# Altium integrated library Altera Cyclone III.IntLib: 225 symbols (part 5 of 50)
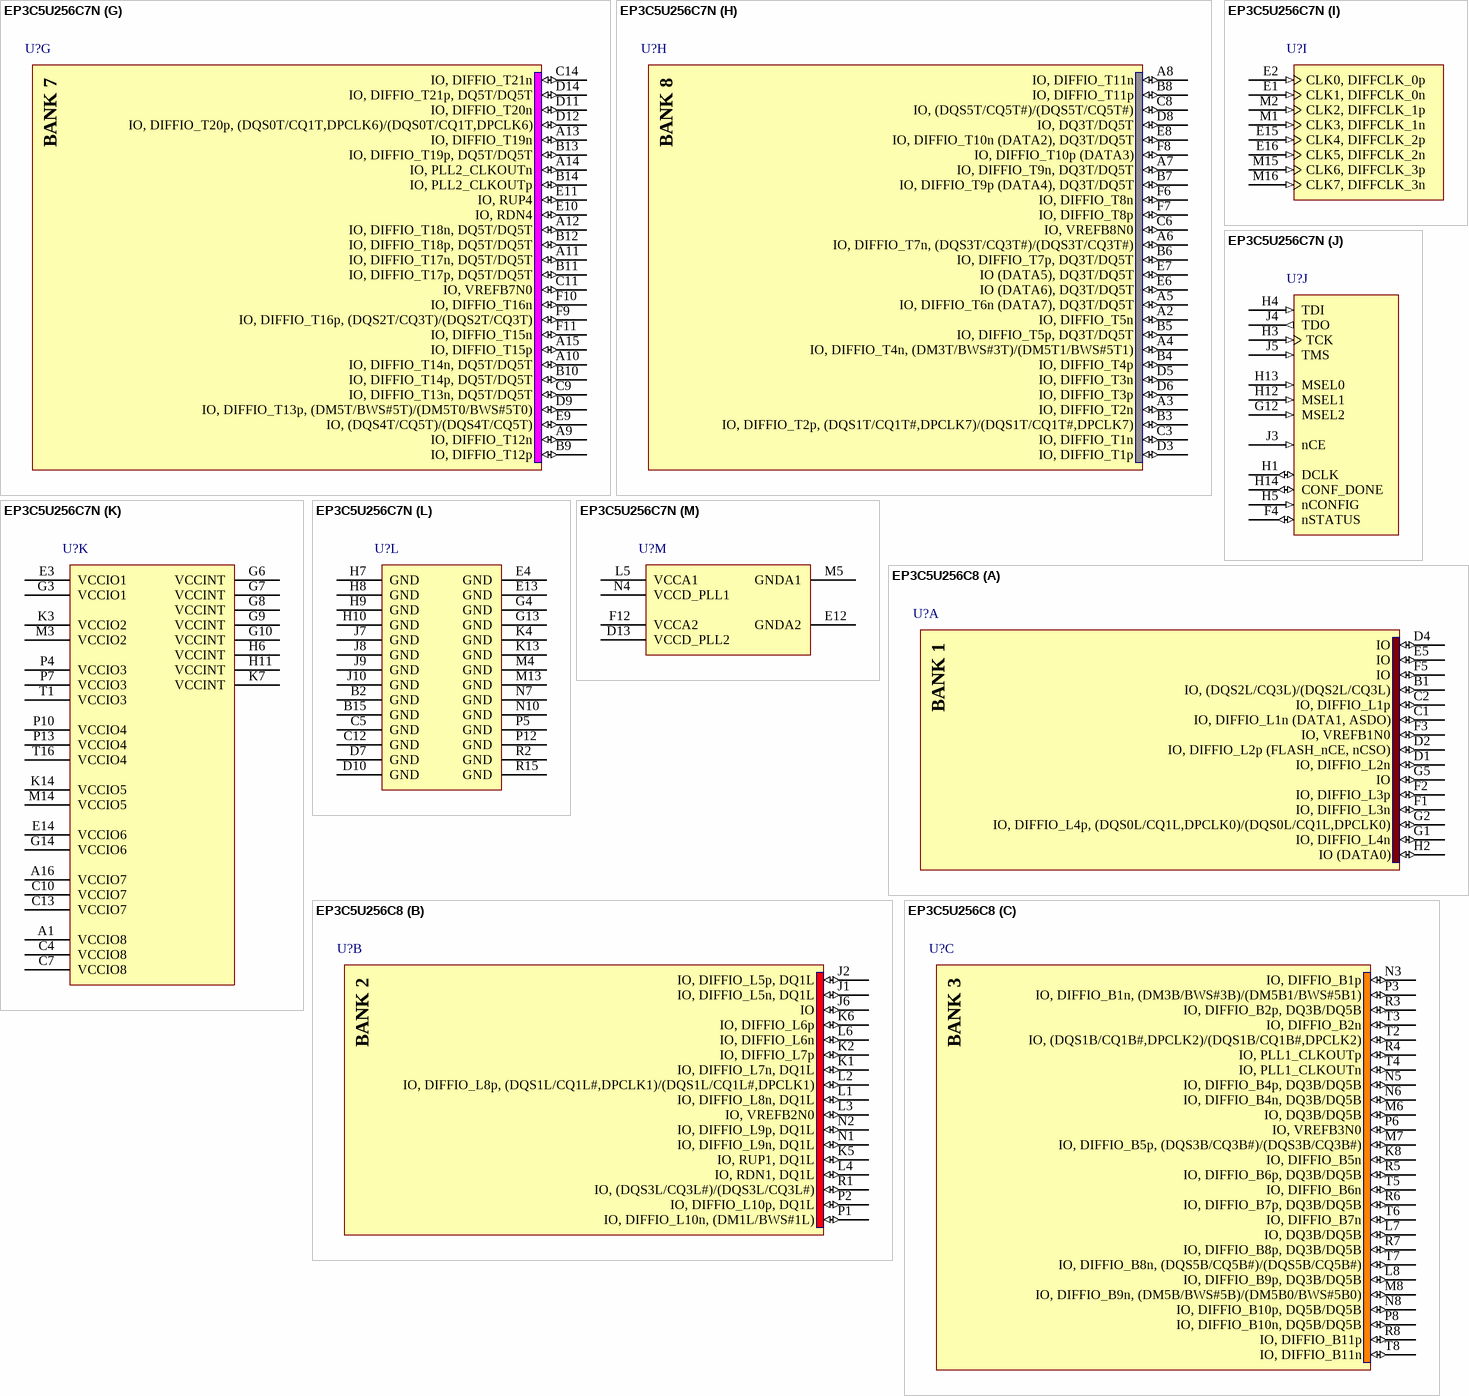
[diagram p402: symbols EP3C5U256C7N to EP3C5U256C8]

## EP3C5U256C7N
designator U?
Cyclone III Family FPGA, 182 I/O Pins, 4 PLLs, 256-Pin UFBGA, Speed Grade 7, Commercial Grade, Pb-Free; Published: 14-Mar-2008; DatasheetVersion: ver2.0, May-2008; PackageVersion: ver15.1, May-2008; PackageReference: UBGA256; Publisher: Altium Limited; PackageDescription: 256-Ball Ultra FineLine Ball Grid Array (UBGA) - Wire Bond; Supplier 1: Digi-Key; Supplier Part Number 1: 544-2441-ND; Code_JEDEC: MO-216-BAJ-2; ComponentLink1Description: Manufacturer Link; ComponentLink1URL: http://www.altera.com/; ComponentLink2Description: Handbook (7.86MB); ComponentLink2URL: http://www.altera.com/literature/hb/cyc3/cyclone3_handbook.pdf; ComponentLink3Description: Packaging Specification; ComponentLink3URL: http://www.altera.com/literature/ds/dspkg.pdf
footprint UBGA256 (BGA, 484-Leads, Body 19x19mm, Pitch 0.8mm)
3D model EP3C5-UBGA256 (256-Ball Ultra FineLine Ball Grid Array (UBGA) - Wire Bond)
signal-integrity model EP3C5_U256 (Cyclone III)
part A pins: B1 IO, (DQS2L/CQ3L)/(DQS2L/CQ3L) (io), C1 IO, DIFFIO_L1n (DATA1, ASDO) (io), C2 IO, DIFFIO_L1p (io), D1 IO, DIFFIO_L2n (io), D2 IO, DIFFIO_L2p (FLASH_nCE, nCSO) (io), D4 IO (io), E5 IO (io), F1 IO, DIFFIO_L3n (io), F2 IO, DIFFIO_L3p (io), F3 IO, VREFB1N0 (io), F5 IO (io), G1 IO, DIFFIO_L4n (io), G2 IO, DIFFIO_L4p, (DQS0L/CQ1L,DPCLK0)/(DQS0L/CQ1L,DPCLK0) (io), G5 IO (io), H2 IO (DATA0) (io)
part B pins: J1 IO, DIFFIO_L5n, DQ1L (io), J2 IO, DIFFIO_L5p, DQ1L (io), J6 IO (io), K1 IO, DIFFIO_L7n, DQ1L (io), K2 IO, DIFFIO_L7p (io), K5 IO, RUP1, DQ1L (io), K6 IO, DIFFIO_L6p (io), L1 IO, DIFFIO_L8n, DQ1L (io), L2 IO, DIFFIO_L8p, (DQS1L/CQ1L#,DPCLK1)/(DQS1L/CQ1L#,DPCLK1) (io), L3 IO, VREFB2N0 (io), L4 IO, RDN1, DQ1L (io), L6 IO, DIFFIO_L6n (io), N1 IO, DIFFIO_L9n, DQ1L (io), N2 IO, DIFFIO_L9p, DQ1L (io), P1 IO, DIFFIO_L10n, (DM1L/BWS#1L) (io), P2 IO, DIFFIO_L10p, DQ1L (io), R1 IO, (DQS3L/CQ3L#)/(DQS3L/CQ3L#) (io)
part C pins: K8 IO, DIFFIO_B5n (io), L7 IO, DQ3B/DQ5B (io), L8 IO, DIFFIO_B9p, DQ3B/DQ5B (io), M6 IO, DQ3B/DQ5B (io), M7 IO, DIFFIO_B5p, (DQS3B/CQ3B#)/(DQS3B/CQ3B#) (io), M8 IO, DIFFIO_B9n, (DM5B/BWS#5B)/(DM5B0/BWS#5B0) (io), N3 IO, DIFFIO_B1p (io), N5 IO, DIFFIO_B4p, DQ3B/DQ5B (io), N6 IO, DIFFIO_B4n, DQ3B/DQ5B (io), N8 IO, DIFFIO_B10p, DQ5B/DQ5B (io), P3 IO, DIFFIO_B1n, (DM3B/BWS#3B)/(DM5B1/BWS#5B1) (io), P6 IO, VREFB3N0 (io), P8 IO, DIFFIO_B10n, DQ5B/DQ5B (io), R3 IO, DIFFIO_B2p, DQ3B/DQ5B (io), R4 IO, PLL1_CLKOUTp (io), R5 IO, DIFFIO_B6p, DQ3B/DQ5B (io), R6 IO, DIFFIO_B7p, DQ3B/DQ5B (io), R7 IO, DIFFIO_B8p, DQ3B/DQ5B (io), R8 IO, DIFFIO_B11p (io), T2 IO, (DQS1B/CQ1B#,DPCLK2)/(DQS1B/CQ1B#,DPCLK2) (io), T3 IO, DIFFIO_B2n (io), T4 IO, PLL1_CLKOUTn (io), T5 IO, DIFFIO_B6n (io), T6 IO, DIFFIO_B7n (io), T7 IO, DIFFIO_B8n, (DQS5B/CQ5B#)/(DQS5B/CQ5B#) (io), T8 IO, DIFFIO_B11n (io)
part D pins: K9 IO, DIFFIO_B13p (io), K10 IO, DIFFIO_B18p (io), L9 IO, DIFFIO_B13n (io), L10 IO, DIFFIO_B18n (io), L11 IO, DIFFIO_B21n (io), M9 IO, DIFFIO_B14p (io), M10 IO, RUP2 (io), M11 IO, DIFFIO_B22p (io), N9 IO, DIFFIO_B14n, DQ5B/DQ5B (io), N11 IO, RDN2 (io), N12 IO, DIFFIO_B22n (io), P9 IO, (DQS2B/CQ3B)/(DQS2B/CQ3B) (io), P11 IO, VREFB4N0 (io), P14 IO, DIFFIO_B21p (io), R9 IO, DIFFIO_B12p (io), R10 IO, DIFFIO_B15p, DQ5B/DQ5B (io), R11 IO, DIFFIO_B16p, DQ5B/DQ5B (io), R12 IO, DIFFIO_B17p, DQ5B/DQ5B (io), R13 IO, DIFFIO_B19p (io), R14 IO (io), T9 IO, DIFFIO_B12n (io), T10 IO, DIFFIO_B15n, (DQS4B/CQ5B)/(DQS4B/CQ5B) (io), T11 IO, DIFFIO_B16n (io), T12 IO, DIFFIO_B17n, DQ5B/DQ5B (io), T13 IO, DIFFIO_B19n, DQ5B/DQ5B (io), T14 IO, DIFFIO_B20p, DQ5B/DQ5B (io), T15 IO, DIFFIO_B20n, (DQS0B/CQ1B,DPCLK3)/(DQS0B/CQ1B,DPCLK3) (io)
part E pins: J11 IO (io), J12 IO, DIFFIO_R6p (io), J13 IO, DQ1R (io), J14 IO, DIFFIO_R6n, DQ1R (io), J15 IO, DIFFIO_R7p (DEV_CLRn) (io), J16 IO, DIFFIO_R7n (DEV_OE) (io), K11 IO (io), K12 IO (io), K15 IO, DIFFIO_R8p, (DQS1R/CQ1R#,DPCLK4)/(DQS1R/CQ1R#,DPCLK4) (io), K16 IO, DIFFIO_R8n, DQ1R (io), L12 IO (io), L13 IO, DQ1R (io), L14 IO, VREFB5N0 (io), L15 IO, DIFFIO_R9p (io), L16 IO, DIFFIO_R9n, DQ1R (io), M12 IO (io), N13 IO (io), N14 IO, RUP3, (DM1R/BWS#1R) (io), N15 IO, DIFFIO_R10p, DQ1R (io), N16 IO, DIFFIO_R10n, DQ1R (io), P15 IO, RDN3, DQ1R (io), P16 IO, DIFFIO_R11n, (DQS3R/CQ3R#)/(DQS3R/CQ3R#) (io), R16 IO, DIFFIO_R11p, DQ1R (io)
part F pins: B16 IO, (DQS0R/CQ1R,DPCLK5)/(DQS0R/CQ1R,DPCLK5) (io), C15 IO, DIFFIO_R1p (io), C16 IO, DIFFIO_R1n, (DQS2R/CQ3R)/(DQS2R/CQ3R) (io), D15 IO, DIFFIO_R2p (io), D16 IO, DIFFIO_R2n (io), F13 IO (io), F14 IO, VREFB6N0 (io), F15 IO, DIFFIO_R3p (CLKUSR) (io), F16 IO, DIFFIO_R3n (nCEO) (io), G11 IO (io), G15 IO, DIFFIO_R4p (CRC_ERROR) (io), G16 IO, DIFFIO_R4n (INIT_DONE) (io), H15 IO, DIFFIO_R5p (io), H16 IO, DIFFIO_R5n (io)
part G pins: A9 IO, DIFFIO_T12n (io), A10 IO, DIFFIO_T14n, DQ5T/DQ5T (io), A11 IO, DIFFIO_T17n, DQ5T/DQ5T (io), A12 IO, DIFFIO_T18n, DQ5T/DQ5T (io), A13 IO, DIFFIO_T19n (io), A14 IO, PLL2_CLKOUTn (io), A15 IO, DIFFIO_T15p (io), B9 IO, DIFFIO_T12p (io), B10 IO, DIFFIO_T14p, DQ5T/DQ5T (io), B11 IO, DIFFIO_T17p, DQ5T/DQ5T (io), B12 IO, DIFFIO_T18p, DQ5T/DQ5T (io), B13 IO, DIFFIO_T19p, DQ5T/DQ5T (io), B14 IO, PLL2_CLKOUTp (io), C9 IO, DIFFIO_T13n, DQ5T/DQ5T (io), C11 IO, VREFB7N0 (io), C14 IO, DIFFIO_T21n (io), D9 IO, DIFFIO_T13p, (DM5T/BWS#5T)/(DM5T0/BWS#5T0) (io), D11 IO, DIFFIO_T20n (io), D12 IO, DIFFIO_T20p, (DQS0T/CQ1T,DPCLK6)/(DQS0T/CQ1T,DPCLK6) (io), D14 IO, DIFFIO_T21p, DQ5T/DQ5T (io), E9 IO, (DQS4T/CQ5T)/(DQS4T/CQ5T) (io), E10 IO, RDN4 (io), E11 IO, RUP4 (io), F9 IO, DIFFIO_T16p, (DQS2T/CQ3T)/(DQS2T/CQ3T) (io), F10 IO, DIFFIO_T16n (io), F11 IO, DIFFIO_T15n (io)
part H pins: A2 IO, DIFFIO_T5n (io), A3 IO, DIFFIO_T2n (io), A4 IO, DIFFIO_T4n, (DM3T/BWS#3T)/(DM5T1/BWS#5T1) (io), A5 IO, DIFFIO_T6n (DATA7), DQ3T/DQ5T (io), A6 IO, DIFFIO_T7n, (DQS3T/CQ3T#)/(DQS3T/CQ3T#) (io), A7 IO, DIFFIO_T9n, DQ3T/DQ5T (io), A8 IO, DIFFIO_T11n (io), B3 IO, DIFFIO_T2p, (DQS1T/CQ1T#,DPCLK7)/(DQS1T/CQ1T#,DPCLK7) (io), B4 IO, DIFFIO_T4p (io), B5 IO, DIFFIO_T5p, DQ3T/DQ5T (io), B6 IO, DIFFIO_T7p, DQ3T/DQ5T (io), B7 IO, DIFFIO_T9p (DATA4), DQ3T/DQ5T (io), B8 IO, DIFFIO_T11p (io), C3 IO, DIFFIO_T1n (io), C6 IO, VREFB8N0 (io), C8 IO, (DQS5T/CQ5T#)/(DQS5T/CQ5T#) (io), D3 IO, DIFFIO_T1p (io), D5 IO, DIFFIO_T3n (io), D6 IO, DIFFIO_T3p (io), D8 IO, DQ3T/DQ5T (io), E6 IO (DATA6), DQ3T/DQ5T (io), E7 IO (DATA5), DQ3T/DQ5T (io), E8 IO, DIFFIO_T10n (DATA2), DQ3T/DQ5T (io), F6 IO, DIFFIO_T8n (io), F7 IO, DIFFIO_T8p (io), F8 IO, DIFFIO_T10p (DATA3) (io)
part I pins: E1 CLK1, DIFFCLK_0n (in), E2 CLK0, DIFFCLK_0p (in), E15 CLK4, DIFFCLK_2p (in), E16 CLK5, DIFFCLK_2n (in), M1 CLK3, DIFFCLK_1n (in), M2 CLK2, DIFFCLK_1p (in), M15 CLK6, DIFFCLK_3p (in), M16 CLK7, DIFFCLK_3n (in)
part J pins: F4 nSTATUS (io), G12 MSEL2 (in), H1 DCLK (io), H3 TCK (in), H4 TDI (in), H5 nCONFIG (in), H12 MSEL1 (in), H13 MSEL0 (in), H14 CONF_DONE (io), J3 nCE (in), J4 TDO (out), J5 TMS (in)
part K pins: A1 VCCIO8 (power), A16 VCCIO7 (power), C4 VCCIO8 (power), C7 VCCIO8 (power), C10 VCCIO7 (power), C13 VCCIO7 (power), E3 VCCIO1 (power), E14 VCCIO6 (power), G3 VCCIO1 (power), G6 VCCINT (power), G7 VCCINT (power), G8 VCCINT (power), G9 VCCINT (power), G10 VCCINT (power), G14 VCCIO6 (power), H6 VCCINT (power), H11 VCCINT (power), K3 VCCIO2 (power), K7 VCCINT (power), K14 VCCIO5 (power), M3 VCCIO2 (power), M14 VCCIO5 (power), P4 VCCIO3 (power), P7 VCCIO3 (power), P10 VCCIO4 (power), P13 VCCIO4 (power), T1 VCCIO3 (power), T16 VCCIO4 (power)
part L pins: B2 GND (power), B15 GND (power), C5 GND (power), C12 GND (power), D7 GND (power), D10 GND (power), E4 GND (power), E13 GND (power), G4 GND (power), G13 GND (power), H7 GND (power), H8 GND (power), H9 GND (power), H10 GND (power), J7 GND (power), J8 GND (power), J9 GND (power), J10 GND (power), K4 GND (power), K13 GND (power), M4 GND (power), M13 GND (power), N7 GND (power), N10 GND (power), P5 GND (power), P12 GND (power), R2 GND (power), R15 GND (power)
part M pins: D13 VCCD_PLL2 (power), E12 GNDA2 (power), F12 VCCA2 (power), L5 VCCA1 (power), M5 GNDA1 (power), N4 VCCD_PLL1 (power)
part A text: BANK 1
part B text: BANK 2
part C text: BANK 3
part D text: BANK 4
part E text: BANK 5
part F text: BANK 6
part G text: BANK 7
part H text: BANK 8

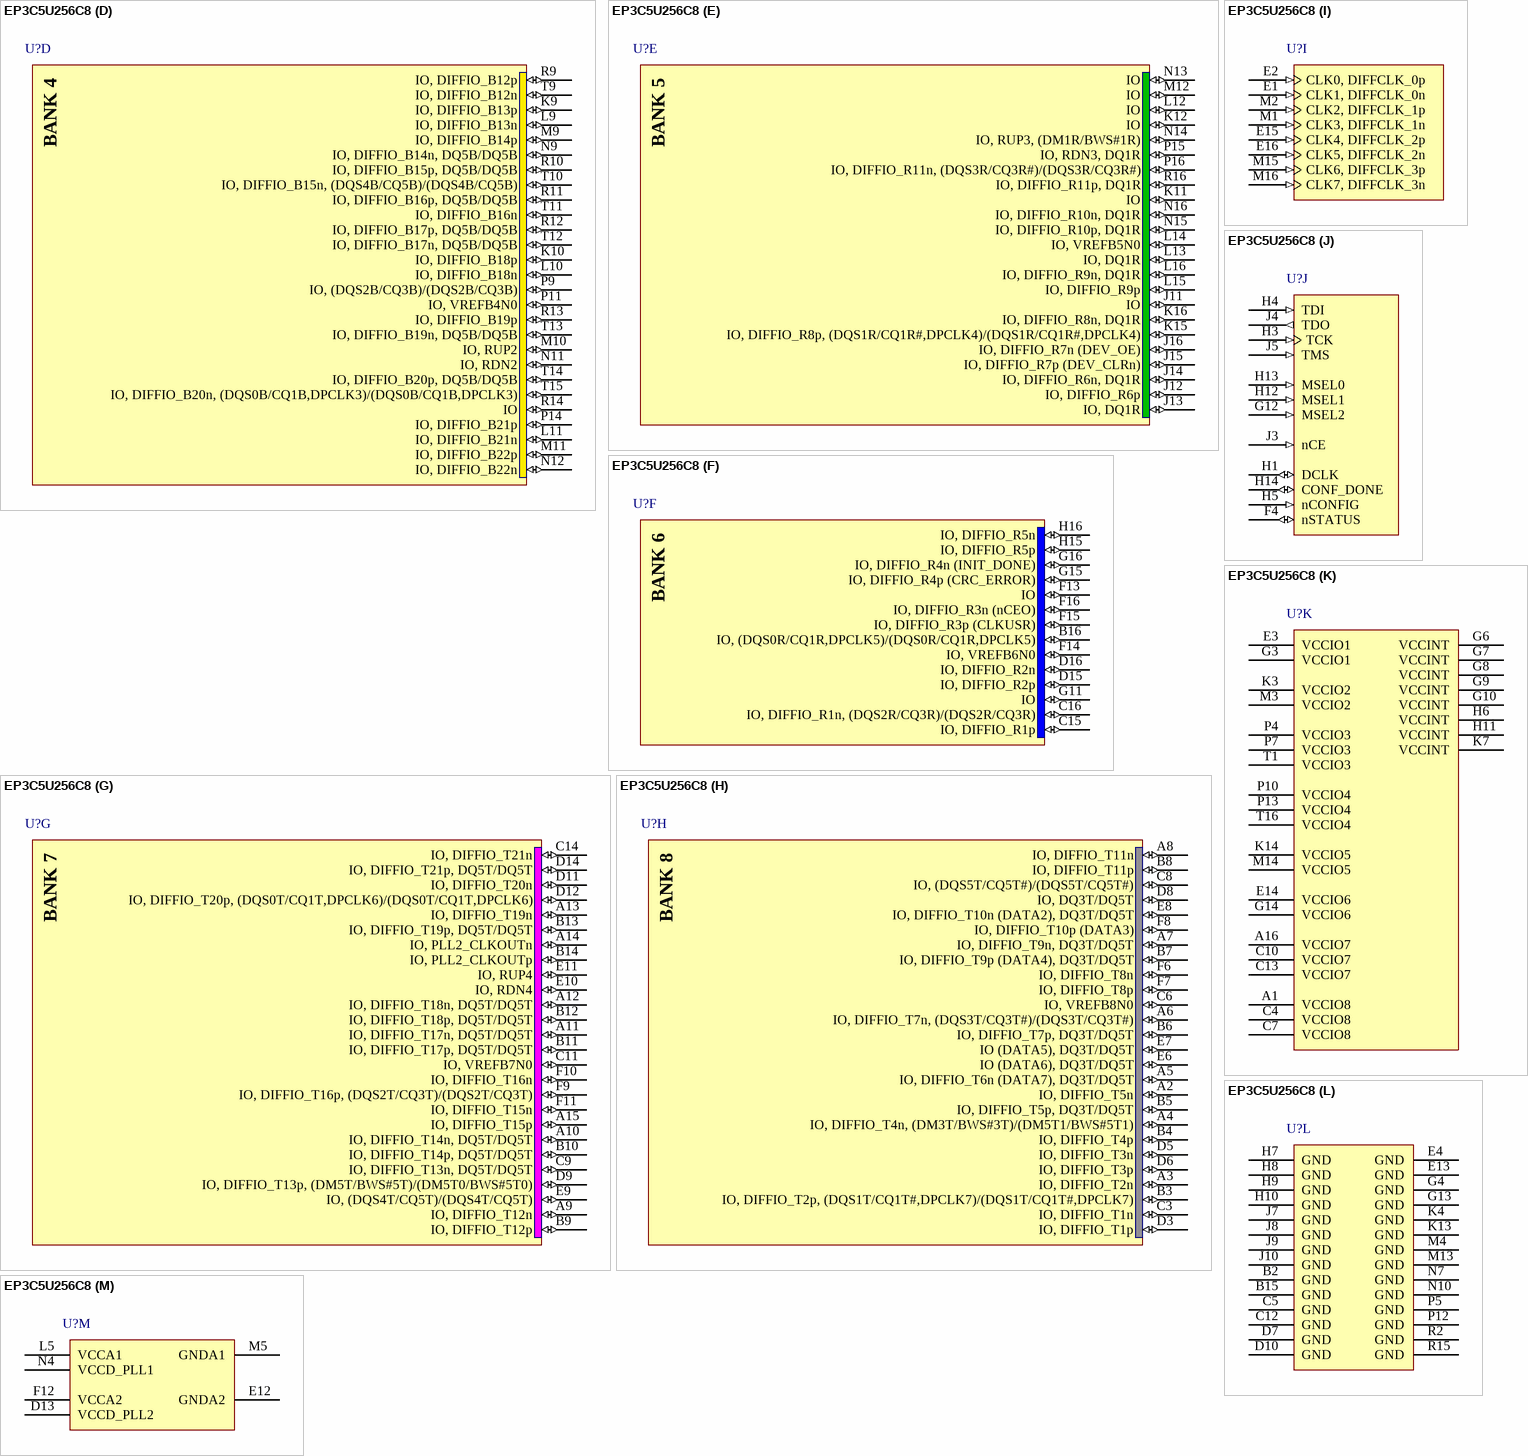
[diagram p27: symbol EP3C5U256C8]

## EP3C5U256C8
designator U?
Cyclone III Family FPGA, 182 I/O Pins, 4 PLLs, 256-Pin UFBGA, Speed Grade 8, Commercial Grade; Published: 14-Mar-2008; DatasheetVersion: ver2.0, May-2008; PackageVersion: ver15.1, May-2008; PackageReference: UBGA256; Publisher: Altium Limited; PackageDescription: 256-Ball Ultra FineLine Ball Grid Array (UBGA) - Wire Bond; Supplier 1: Digi-Key; Supplier Part Number 1: 544-2442-ND; Code_JEDEC: MO-216-BAJ-2; ComponentLink1Description: Manufacturer Link; ComponentLink1URL: http://www.altera.com/; ComponentLink2Description: Handbook (7.86MB); ComponentLink2URL: http://www.altera.com/literature/hb/cyc3/cyclone3_handbook.pdf; ComponentLink3Description: Packaging Specification; ComponentLink3URL: http://www.altera.com/literature/ds/dspkg.pdf
footprint UBGA256 (BGA, 484-Leads, Body 19x19mm, Pitch 0.8mm)
3D model EP3C5-UBGA256 (256-Ball Ultra FineLine Ball Grid Array (UBGA) - Wire Bond)
signal-integrity model EP3C5_U256 (Cyclone III)
part A pins: B1 IO, (DQS2L/CQ3L)/(DQS2L/CQ3L) (io), C1 IO, DIFFIO_L1n (DATA1, ASDO) (io), C2 IO, DIFFIO_L1p (io), D1 IO, DIFFIO_L2n (io), D2 IO, DIFFIO_L2p (FLASH_nCE, nCSO) (io), D4 IO (io), E5 IO (io), F1 IO, DIFFIO_L3n (io), F2 IO, DIFFIO_L3p (io), F3 IO, VREFB1N0 (io), F5 IO (io), G1 IO, DIFFIO_L4n (io), G2 IO, DIFFIO_L4p, (DQS0L/CQ1L,DPCLK0)/(DQS0L/CQ1L,DPCLK0) (io), G5 IO (io), H2 IO (DATA0) (io)
part B pins: J1 IO, DIFFIO_L5n, DQ1L (io), J2 IO, DIFFIO_L5p, DQ1L (io), J6 IO (io), K1 IO, DIFFIO_L7n, DQ1L (io), K2 IO, DIFFIO_L7p (io), K5 IO, RUP1, DQ1L (io), K6 IO, DIFFIO_L6p (io), L1 IO, DIFFIO_L8n, DQ1L (io), L2 IO, DIFFIO_L8p, (DQS1L/CQ1L#,DPCLK1)/(DQS1L/CQ1L#,DPCLK1) (io), L3 IO, VREFB2N0 (io), L4 IO, RDN1, DQ1L (io), L6 IO, DIFFIO_L6n (io), N1 IO, DIFFIO_L9n, DQ1L (io), N2 IO, DIFFIO_L9p, DQ1L (io), P1 IO, DIFFIO_L10n, (DM1L/BWS#1L) (io), P2 IO, DIFFIO_L10p, DQ1L (io), R1 IO, (DQS3L/CQ3L#)/(DQS3L/CQ3L#) (io)
part C pins: K8 IO, DIFFIO_B5n (io), L7 IO, DQ3B/DQ5B (io), L8 IO, DIFFIO_B9p, DQ3B/DQ5B (io), M6 IO, DQ3B/DQ5B (io), M7 IO, DIFFIO_B5p, (DQS3B/CQ3B#)/(DQS3B/CQ3B#) (io), M8 IO, DIFFIO_B9n, (DM5B/BWS#5B)/(DM5B0/BWS#5B0) (io), N3 IO, DIFFIO_B1p (io), N5 IO, DIFFIO_B4p, DQ3B/DQ5B (io), N6 IO, DIFFIO_B4n, DQ3B/DQ5B (io), N8 IO, DIFFIO_B10p, DQ5B/DQ5B (io), P3 IO, DIFFIO_B1n, (DM3B/BWS#3B)/(DM5B1/BWS#5B1) (io), P6 IO, VREFB3N0 (io), P8 IO, DIFFIO_B10n, DQ5B/DQ5B (io), R3 IO, DIFFIO_B2p, DQ3B/DQ5B (io), R4 IO, PLL1_CLKOUTp (io), R5 IO, DIFFIO_B6p, DQ3B/DQ5B (io), R6 IO, DIFFIO_B7p, DQ3B/DQ5B (io), R7 IO, DIFFIO_B8p, DQ3B/DQ5B (io), R8 IO, DIFFIO_B11p (io), T2 IO, (DQS1B/CQ1B#,DPCLK2)/(DQS1B/CQ1B#,DPCLK2) (io), T3 IO, DIFFIO_B2n (io), T4 IO, PLL1_CLKOUTn (io), T5 IO, DIFFIO_B6n (io), T6 IO, DIFFIO_B7n (io), T7 IO, DIFFIO_B8n, (DQS5B/CQ5B#)/(DQS5B/CQ5B#) (io), T8 IO, DIFFIO_B11n (io)
part D pins: K9 IO, DIFFIO_B13p (io), K10 IO, DIFFIO_B18p (io), L9 IO, DIFFIO_B13n (io), L10 IO, DIFFIO_B18n (io), L11 IO, DIFFIO_B21n (io), M9 IO, DIFFIO_B14p (io), M10 IO, RUP2 (io), M11 IO, DIFFIO_B22p (io), N9 IO, DIFFIO_B14n, DQ5B/DQ5B (io), N11 IO, RDN2 (io), N12 IO, DIFFIO_B22n (io), P9 IO, (DQS2B/CQ3B)/(DQS2B/CQ3B) (io), P11 IO, VREFB4N0 (io), P14 IO, DIFFIO_B21p (io), R9 IO, DIFFIO_B12p (io), R10 IO, DIFFIO_B15p, DQ5B/DQ5B (io), R11 IO, DIFFIO_B16p, DQ5B/DQ5B (io), R12 IO, DIFFIO_B17p, DQ5B/DQ5B (io), R13 IO, DIFFIO_B19p (io), R14 IO (io), T9 IO, DIFFIO_B12n (io), T10 IO, DIFFIO_B15n, (DQS4B/CQ5B)/(DQS4B/CQ5B) (io), T11 IO, DIFFIO_B16n (io), T12 IO, DIFFIO_B17n, DQ5B/DQ5B (io), T13 IO, DIFFIO_B19n, DQ5B/DQ5B (io), T14 IO, DIFFIO_B20p, DQ5B/DQ5B (io), T15 IO, DIFFIO_B20n, (DQS0B/CQ1B,DPCLK3)/(DQS0B/CQ1B,DPCLK3) (io)
part E pins: J11 IO (io), J12 IO, DIFFIO_R6p (io), J13 IO, DQ1R (io), J14 IO, DIFFIO_R6n, DQ1R (io), J15 IO, DIFFIO_R7p (DEV_CLRn) (io), J16 IO, DIFFIO_R7n (DEV_OE) (io), K11 IO (io), K12 IO (io), K15 IO, DIFFIO_R8p, (DQS1R/CQ1R#,DPCLK4)/(DQS1R/CQ1R#,DPCLK4) (io), K16 IO, DIFFIO_R8n, DQ1R (io), L12 IO (io), L13 IO, DQ1R (io), L14 IO, VREFB5N0 (io), L15 IO, DIFFIO_R9p (io), L16 IO, DIFFIO_R9n, DQ1R (io), M12 IO (io), N13 IO (io), N14 IO, RUP3, (DM1R/BWS#1R) (io), N15 IO, DIFFIO_R10p, DQ1R (io), N16 IO, DIFFIO_R10n, DQ1R (io), P15 IO, RDN3, DQ1R (io), P16 IO, DIFFIO_R11n, (DQS3R/CQ3R#)/(DQS3R/CQ3R#) (io), R16 IO, DIFFIO_R11p, DQ1R (io)
part F pins: B16 IO, (DQS0R/CQ1R,DPCLK5)/(DQS0R/CQ1R,DPCLK5) (io), C15 IO, DIFFIO_R1p (io), C16 IO, DIFFIO_R1n, (DQS2R/CQ3R)/(DQS2R/CQ3R) (io), D15 IO, DIFFIO_R2p (io), D16 IO, DIFFIO_R2n (io), F13 IO (io), F14 IO, VREFB6N0 (io), F15 IO, DIFFIO_R3p (CLKUSR) (io), F16 IO, DIFFIO_R3n (nCEO) (io), G11 IO (io), G15 IO, DIFFIO_R4p (CRC_ERROR) (io), G16 IO, DIFFIO_R4n (INIT_DONE) (io), H15 IO, DIFFIO_R5p (io), H16 IO, DIFFIO_R5n (io)
part G pins: A9 IO, DIFFIO_T12n (io), A10 IO, DIFFIO_T14n, DQ5T/DQ5T (io), A11 IO, DIFFIO_T17n, DQ5T/DQ5T (io), A12 IO, DIFFIO_T18n, DQ5T/DQ5T (io), A13 IO, DIFFIO_T19n (io), A14 IO, PLL2_CLKOUTn (io), A15 IO, DIFFIO_T15p (io), B9 IO, DIFFIO_T12p (io), B10 IO, DIFFIO_T14p, DQ5T/DQ5T (io), B11 IO, DIFFIO_T17p, DQ5T/DQ5T (io), B12 IO, DIFFIO_T18p, DQ5T/DQ5T (io), B13 IO, DIFFIO_T19p, DQ5T/DQ5T (io), B14 IO, PLL2_CLKOUTp (io), C9 IO, DIFFIO_T13n, DQ5T/DQ5T (io), C11 IO, VREFB7N0 (io), C14 IO, DIFFIO_T21n (io), D9 IO, DIFFIO_T13p, (DM5T/BWS#5T)/(DM5T0/BWS#5T0) (io), D11 IO, DIFFIO_T20n (io), D12 IO, DIFFIO_T20p, (DQS0T/CQ1T,DPCLK6)/(DQS0T/CQ1T,DPCLK6) (io), D14 IO, DIFFIO_T21p, DQ5T/DQ5T (io), E9 IO, (DQS4T/CQ5T)/(DQS4T/CQ5T) (io), E10 IO, RDN4 (io), E11 IO, RUP4 (io), F9 IO, DIFFIO_T16p, (DQS2T/CQ3T)/(DQS2T/CQ3T) (io), F10 IO, DIFFIO_T16n (io), F11 IO, DIFFIO_T15n (io)
part H pins: A2 IO, DIFFIO_T5n (io), A3 IO, DIFFIO_T2n (io), A4 IO, DIFFIO_T4n, (DM3T/BWS#3T)/(DM5T1/BWS#5T1) (io), A5 IO, DIFFIO_T6n (DATA7), DQ3T/DQ5T (io), A6 IO, DIFFIO_T7n, (DQS3T/CQ3T#)/(DQS3T/CQ3T#) (io), A7 IO, DIFFIO_T9n, DQ3T/DQ5T (io), A8 IO, DIFFIO_T11n (io), B3 IO, DIFFIO_T2p, (DQS1T/CQ1T#,DPCLK7)/(DQS1T/CQ1T#,DPCLK7) (io), B4 IO, DIFFIO_T4p (io), B5 IO, DIFFIO_T5p, DQ3T/DQ5T (io), B6 IO, DIFFIO_T7p, DQ3T/DQ5T (io), B7 IO, DIFFIO_T9p (DATA4), DQ3T/DQ5T (io), B8 IO, DIFFIO_T11p (io), C3 IO, DIFFIO_T1n (io), C6 IO, VREFB8N0 (io), C8 IO, (DQS5T/CQ5T#)/(DQS5T/CQ5T#) (io), D3 IO, DIFFIO_T1p (io), D5 IO, DIFFIO_T3n (io), D6 IO, DIFFIO_T3p (io), D8 IO, DQ3T/DQ5T (io), E6 IO (DATA6), DQ3T/DQ5T (io), E7 IO (DATA5), DQ3T/DQ5T (io), E8 IO, DIFFIO_T10n (DATA2), DQ3T/DQ5T (io), F6 IO, DIFFIO_T8n (io), F7 IO, DIFFIO_T8p (io), F8 IO, DIFFIO_T10p (DATA3) (io)
part I pins: E1 CLK1, DIFFCLK_0n (in), E2 CLK0, DIFFCLK_0p (in), E15 CLK4, DIFFCLK_2p (in), E16 CLK5, DIFFCLK_2n (in), M1 CLK3, DIFFCLK_1n (in), M2 CLK2, DIFFCLK_1p (in), M15 CLK6, DIFFCLK_3p (in), M16 CLK7, DIFFCLK_3n (in)
part J pins: F4 nSTATUS (io), G12 MSEL2 (in), H1 DCLK (io), H3 TCK (in), H4 TDI (in), H5 nCONFIG (in), H12 MSEL1 (in), H13 MSEL0 (in), H14 CONF_DONE (io), J3 nCE (in), J4 TDO (out), J5 TMS (in)
part K pins: A1 VCCIO8 (power), A16 VCCIO7 (power), C4 VCCIO8 (power), C7 VCCIO8 (power), C10 VCCIO7 (power), C13 VCCIO7 (power), E3 VCCIO1 (power), E14 VCCIO6 (power), G3 VCCIO1 (power), G6 VCCINT (power), G7 VCCINT (power), G8 VCCINT (power), G9 VCCINT (power), G10 VCCINT (power), G14 VCCIO6 (power), H6 VCCINT (power), H11 VCCINT (power), K3 VCCIO2 (power), K7 VCCINT (power), K14 VCCIO5 (power), M3 VCCIO2 (power), M14 VCCIO5 (power), P4 VCCIO3 (power), P7 VCCIO3 (power), P10 VCCIO4 (power), P13 VCCIO4 (power), T1 VCCIO3 (power), T16 VCCIO4 (power)
part L pins: B2 GND (power), B15 GND (power), C5 GND (power), C12 GND (power), D7 GND (power), D10 GND (power), E4 GND (power), E13 GND (power), G4 GND (power), G13 GND (power), H7 GND (power), H8 GND (power), H9 GND (power), H10 GND (power), J7 GND (power), J8 GND (power), J9 GND (power), J10 GND (power), K4 GND (power), K13 GND (power), M4 GND (power), M13 GND (power), N7 GND (power), N10 GND (power), P5 GND (power), P12 GND (power), R2 GND (power), R15 GND (power)
part M pins: D13 VCCD_PLL2 (power), E12 GNDA2 (power), F12 VCCA2 (power), L5 VCCA1 (power), M5 GNDA1 (power), N4 VCCD_PLL1 (power)
part A text: BANK 1
part B text: BANK 2
part C text: BANK 3
part D text: BANK 4
part E text: BANK 5
part F text: BANK 6
part G text: BANK 7
part H text: BANK 8

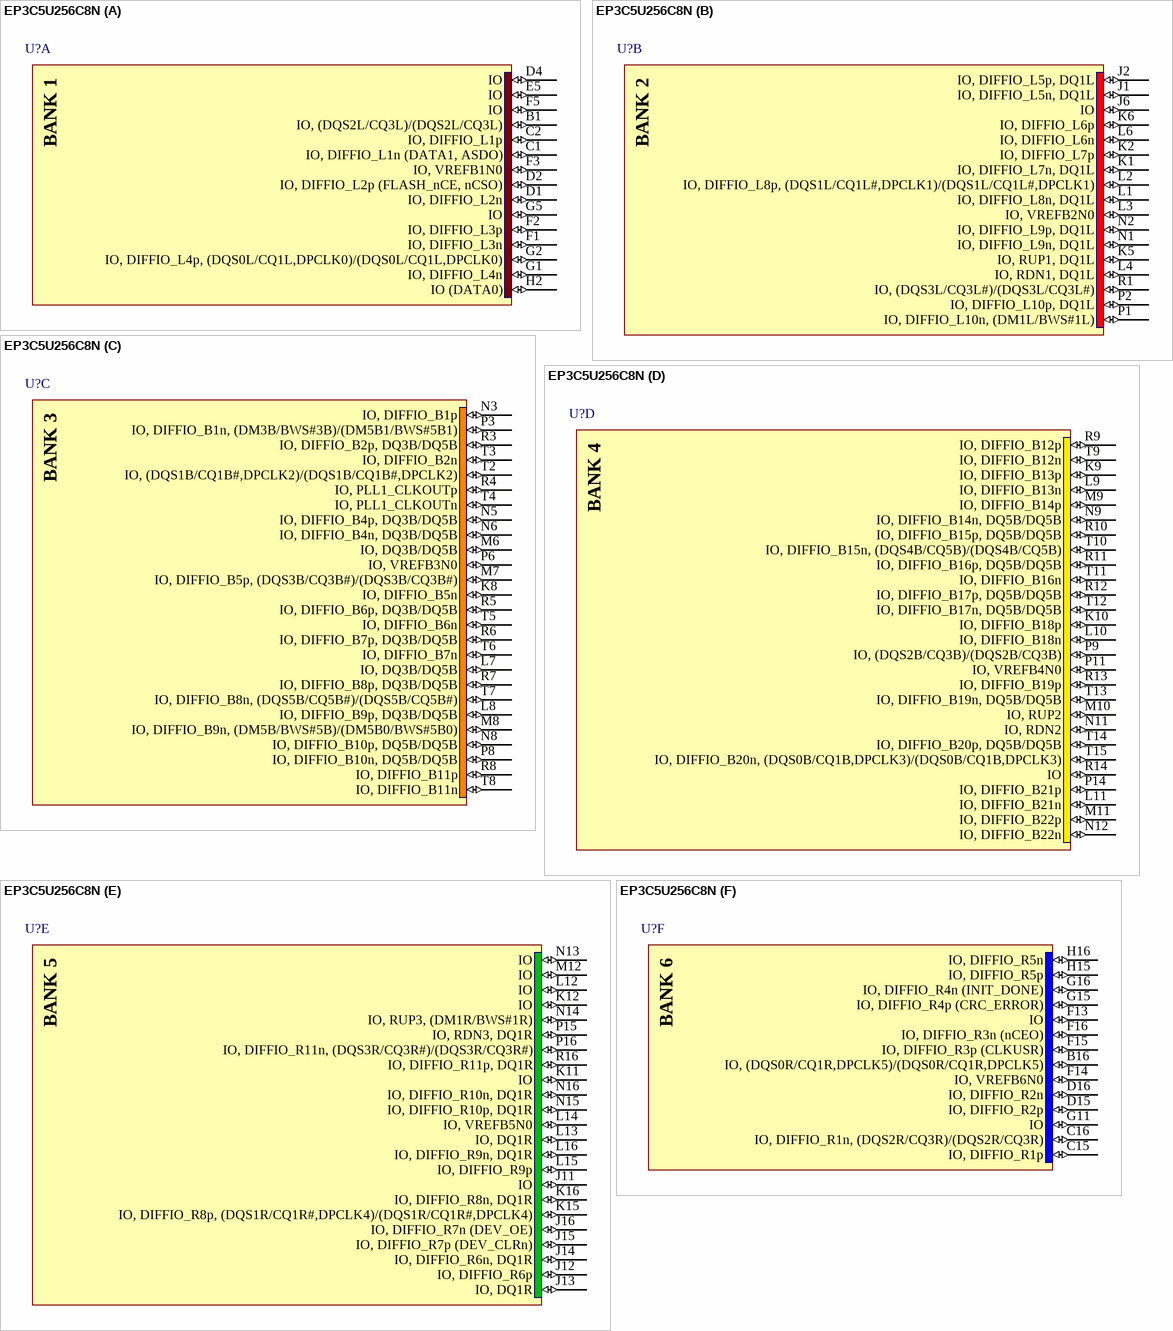
[diagram p28: symbol EP3C5U256C8N]

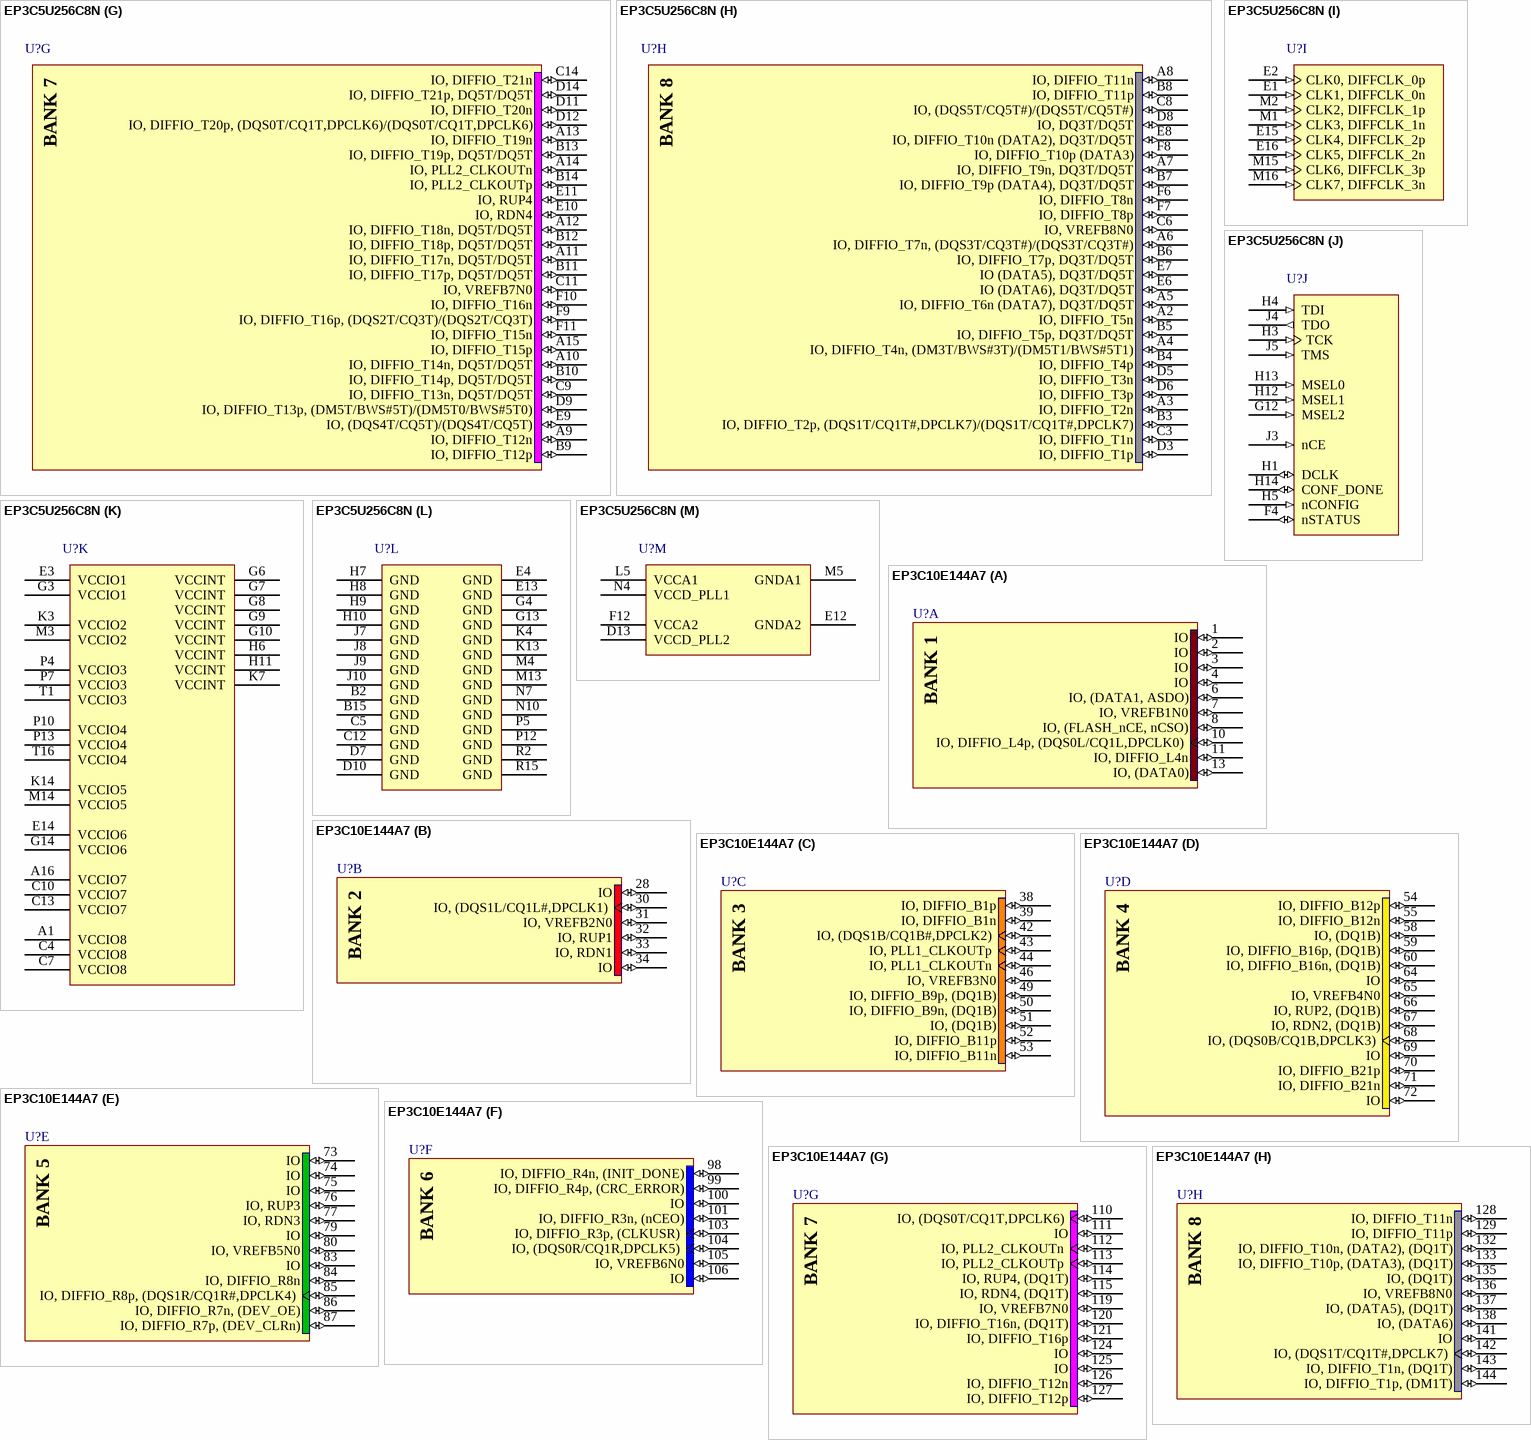
[diagram p29: symbols EP3C5U256C8N to EP3C10E144A7]

## EP3C5U256C8N
designator U?
Cyclone III Family FPGA, 182 I/O Pins, 4 PLLs, 256-Pin UFBGA, Speed Grade 8, Commercial Grade, Pb-Free; Published: 14-Mar-2008; DatasheetVersion: ver2.0, May-2008; PackageVersion: ver15.1, May-2008; PackageReference: UBGA256; Publisher: Altium Limited; PackageDescription: 256-Ball Ultra FineLine Ball Grid Array (UBGA) - Wire Bond; Supplier 1: Digi-Key; Supplier Part Number 1: 544-2443-ND; Supplier 2: Farnell; Supplier Part Number 2: 1635057; Code_JEDEC: MO-216-BAJ-2; ComponentLink1Description: Manufacturer Link; ComponentLink1URL: http://www.altera.com/; ComponentLink2Description: Handbook (7.86MB); ComponentLink2URL: http://www.altera.com/literature/hb/cyc3/cyclone3_handbook.pdf; ComponentLink3Description: Packaging Specification; ComponentLink3URL: http://www.altera.com/literature/ds/dspkg.pdf
footprint UBGA256 (BGA, 484-Leads, Body 19x19mm, Pitch 0.8mm)
3D model EP3C5-UBGA256 (256-Ball Ultra FineLine Ball Grid Array (UBGA) - Wire Bond)
signal-integrity model EP3C5_U256 (Cyclone III)
part A pins: B1 IO, (DQS2L/CQ3L)/(DQS2L/CQ3L) (io), C1 IO, DIFFIO_L1n (DATA1, ASDO) (io), C2 IO, DIFFIO_L1p (io), D1 IO, DIFFIO_L2n (io), D2 IO, DIFFIO_L2p (FLASH_nCE, nCSO) (io), D4 IO (io), E5 IO (io), F1 IO, DIFFIO_L3n (io), F2 IO, DIFFIO_L3p (io), F3 IO, VREFB1N0 (io), F5 IO (io), G1 IO, DIFFIO_L4n (io), G2 IO, DIFFIO_L4p, (DQS0L/CQ1L,DPCLK0)/(DQS0L/CQ1L,DPCLK0) (io), G5 IO (io), H2 IO (DATA0) (io)
part B pins: J1 IO, DIFFIO_L5n, DQ1L (io), J2 IO, DIFFIO_L5p, DQ1L (io), J6 IO (io), K1 IO, DIFFIO_L7n, DQ1L (io), K2 IO, DIFFIO_L7p (io), K5 IO, RUP1, DQ1L (io), K6 IO, DIFFIO_L6p (io), L1 IO, DIFFIO_L8n, DQ1L (io), L2 IO, DIFFIO_L8p, (DQS1L/CQ1L#,DPCLK1)/(DQS1L/CQ1L#,DPCLK1) (io), L3 IO, VREFB2N0 (io), L4 IO, RDN1, DQ1L (io), L6 IO, DIFFIO_L6n (io), N1 IO, DIFFIO_L9n, DQ1L (io), N2 IO, DIFFIO_L9p, DQ1L (io), P1 IO, DIFFIO_L10n, (DM1L/BWS#1L) (io), P2 IO, DIFFIO_L10p, DQ1L (io), R1 IO, (DQS3L/CQ3L#)/(DQS3L/CQ3L#) (io)
part C pins: K8 IO, DIFFIO_B5n (io), L7 IO, DQ3B/DQ5B (io), L8 IO, DIFFIO_B9p, DQ3B/DQ5B (io), M6 IO, DQ3B/DQ5B (io), M7 IO, DIFFIO_B5p, (DQS3B/CQ3B#)/(DQS3B/CQ3B#) (io), M8 IO, DIFFIO_B9n, (DM5B/BWS#5B)/(DM5B0/BWS#5B0) (io), N3 IO, DIFFIO_B1p (io), N5 IO, DIFFIO_B4p, DQ3B/DQ5B (io), N6 IO, DIFFIO_B4n, DQ3B/DQ5B (io), N8 IO, DIFFIO_B10p, DQ5B/DQ5B (io), P3 IO, DIFFIO_B1n, (DM3B/BWS#3B)/(DM5B1/BWS#5B1) (io), P6 IO, VREFB3N0 (io), P8 IO, DIFFIO_B10n, DQ5B/DQ5B (io), R3 IO, DIFFIO_B2p, DQ3B/DQ5B (io), R4 IO, PLL1_CLKOUTp (io), R5 IO, DIFFIO_B6p, DQ3B/DQ5B (io), R6 IO, DIFFIO_B7p, DQ3B/DQ5B (io), R7 IO, DIFFIO_B8p, DQ3B/DQ5B (io), R8 IO, DIFFIO_B11p (io), T2 IO, (DQS1B/CQ1B#,DPCLK2)/(DQS1B/CQ1B#,DPCLK2) (io), T3 IO, DIFFIO_B2n (io), T4 IO, PLL1_CLKOUTn (io), T5 IO, DIFFIO_B6n (io), T6 IO, DIFFIO_B7n (io), T7 IO, DIFFIO_B8n, (DQS5B/CQ5B#)/(DQS5B/CQ5B#) (io), T8 IO, DIFFIO_B11n (io)
part D pins: K9 IO, DIFFIO_B13p (io), K10 IO, DIFFIO_B18p (io), L9 IO, DIFFIO_B13n (io), L10 IO, DIFFIO_B18n (io), L11 IO, DIFFIO_B21n (io), M9 IO, DIFFIO_B14p (io), M10 IO, RUP2 (io), M11 IO, DIFFIO_B22p (io), N9 IO, DIFFIO_B14n, DQ5B/DQ5B (io), N11 IO, RDN2 (io), N12 IO, DIFFIO_B22n (io), P9 IO, (DQS2B/CQ3B)/(DQS2B/CQ3B) (io), P11 IO, VREFB4N0 (io), P14 IO, DIFFIO_B21p (io), R9 IO, DIFFIO_B12p (io), R10 IO, DIFFIO_B15p, DQ5B/DQ5B (io), R11 IO, DIFFIO_B16p, DQ5B/DQ5B (io), R12 IO, DIFFIO_B17p, DQ5B/DQ5B (io), R13 IO, DIFFIO_B19p (io), R14 IO (io), T9 IO, DIFFIO_B12n (io), T10 IO, DIFFIO_B15n, (DQS4B/CQ5B)/(DQS4B/CQ5B) (io), T11 IO, DIFFIO_B16n (io), T12 IO, DIFFIO_B17n, DQ5B/DQ5B (io), T13 IO, DIFFIO_B19n, DQ5B/DQ5B (io), T14 IO, DIFFIO_B20p, DQ5B/DQ5B (io), T15 IO, DIFFIO_B20n, (DQS0B/CQ1B,DPCLK3)/(DQS0B/CQ1B,DPCLK3) (io)
part E pins: J11 IO (io), J12 IO, DIFFIO_R6p (io), J13 IO, DQ1R (io), J14 IO, DIFFIO_R6n, DQ1R (io), J15 IO, DIFFIO_R7p (DEV_CLRn) (io), J16 IO, DIFFIO_R7n (DEV_OE) (io), K11 IO (io), K12 IO (io), K15 IO, DIFFIO_R8p, (DQS1R/CQ1R#,DPCLK4)/(DQS1R/CQ1R#,DPCLK4) (io), K16 IO, DIFFIO_R8n, DQ1R (io), L12 IO (io), L13 IO, DQ1R (io), L14 IO, VREFB5N0 (io), L15 IO, DIFFIO_R9p (io), L16 IO, DIFFIO_R9n, DQ1R (io), M12 IO (io), N13 IO (io), N14 IO, RUP3, (DM1R/BWS#1R) (io), N15 IO, DIFFIO_R10p, DQ1R (io), N16 IO, DIFFIO_R10n, DQ1R (io), P15 IO, RDN3, DQ1R (io), P16 IO, DIFFIO_R11n, (DQS3R/CQ3R#)/(DQS3R/CQ3R#) (io), R16 IO, DIFFIO_R11p, DQ1R (io)
part F pins: B16 IO, (DQS0R/CQ1R,DPCLK5)/(DQS0R/CQ1R,DPCLK5) (io), C15 IO, DIFFIO_R1p (io), C16 IO, DIFFIO_R1n, (DQS2R/CQ3R)/(DQS2R/CQ3R) (io), D15 IO, DIFFIO_R2p (io), D16 IO, DIFFIO_R2n (io), F13 IO (io), F14 IO, VREFB6N0 (io), F15 IO, DIFFIO_R3p (CLKUSR) (io), F16 IO, DIFFIO_R3n (nCEO) (io), G11 IO (io), G15 IO, DIFFIO_R4p (CRC_ERROR) (io), G16 IO, DIFFIO_R4n (INIT_DONE) (io), H15 IO, DIFFIO_R5p (io), H16 IO, DIFFIO_R5n (io)
part G pins: A9 IO, DIFFIO_T12n (io), A10 IO, DIFFIO_T14n, DQ5T/DQ5T (io), A11 IO, DIFFIO_T17n, DQ5T/DQ5T (io), A12 IO, DIFFIO_T18n, DQ5T/DQ5T (io), A13 IO, DIFFIO_T19n (io), A14 IO, PLL2_CLKOUTn (io), A15 IO, DIFFIO_T15p (io), B9 IO, DIFFIO_T12p (io), B10 IO, DIFFIO_T14p, DQ5T/DQ5T (io), B11 IO, DIFFIO_T17p, DQ5T/DQ5T (io), B12 IO, DIFFIO_T18p, DQ5T/DQ5T (io), B13 IO, DIFFIO_T19p, DQ5T/DQ5T (io), B14 IO, PLL2_CLKOUTp (io), C9 IO, DIFFIO_T13n, DQ5T/DQ5T (io), C11 IO, VREFB7N0 (io), C14 IO, DIFFIO_T21n (io), D9 IO, DIFFIO_T13p, (DM5T/BWS#5T)/(DM5T0/BWS#5T0) (io), D11 IO, DIFFIO_T20n (io), D12 IO, DIFFIO_T20p, (DQS0T/CQ1T,DPCLK6)/(DQS0T/CQ1T,DPCLK6) (io), D14 IO, DIFFIO_T21p, DQ5T/DQ5T (io), E9 IO, (DQS4T/CQ5T)/(DQS4T/CQ5T) (io), E10 IO, RDN4 (io), E11 IO, RUP4 (io), F9 IO, DIFFIO_T16p, (DQS2T/CQ3T)/(DQS2T/CQ3T) (io), F10 IO, DIFFIO_T16n (io), F11 IO, DIFFIO_T15n (io)
part H pins: A2 IO, DIFFIO_T5n (io), A3 IO, DIFFIO_T2n (io), A4 IO, DIFFIO_T4n, (DM3T/BWS#3T)/(DM5T1/BWS#5T1) (io), A5 IO, DIFFIO_T6n (DATA7), DQ3T/DQ5T (io), A6 IO, DIFFIO_T7n, (DQS3T/CQ3T#)/(DQS3T/CQ3T#) (io), A7 IO, DIFFIO_T9n, DQ3T/DQ5T (io), A8 IO, DIFFIO_T11n (io), B3 IO, DIFFIO_T2p, (DQS1T/CQ1T#,DPCLK7)/(DQS1T/CQ1T#,DPCLK7) (io), B4 IO, DIFFIO_T4p (io), B5 IO, DIFFIO_T5p, DQ3T/DQ5T (io), B6 IO, DIFFIO_T7p, DQ3T/DQ5T (io), B7 IO, DIFFIO_T9p (DATA4), DQ3T/DQ5T (io), B8 IO, DIFFIO_T11p (io), C3 IO, DIFFIO_T1n (io), C6 IO, VREFB8N0 (io), C8 IO, (DQS5T/CQ5T#)/(DQS5T/CQ5T#) (io), D3 IO, DIFFIO_T1p (io), D5 IO, DIFFIO_T3n (io), D6 IO, DIFFIO_T3p (io), D8 IO, DQ3T/DQ5T (io), E6 IO (DATA6), DQ3T/DQ5T (io), E7 IO (DATA5), DQ3T/DQ5T (io), E8 IO, DIFFIO_T10n (DATA2), DQ3T/DQ5T (io), F6 IO, DIFFIO_T8n (io), F7 IO, DIFFIO_T8p (io), F8 IO, DIFFIO_T10p (DATA3) (io)
part I pins: E1 CLK1, DIFFCLK_0n (in), E2 CLK0, DIFFCLK_0p (in), E15 CLK4, DIFFCLK_2p (in), E16 CLK5, DIFFCLK_2n (in), M1 CLK3, DIFFCLK_1n (in), M2 CLK2, DIFFCLK_1p (in), M15 CLK6, DIFFCLK_3p (in), M16 CLK7, DIFFCLK_3n (in)
part J pins: F4 nSTATUS (io), G12 MSEL2 (in), H1 DCLK (io), H3 TCK (in), H4 TDI (in), H5 nCONFIG (in), H12 MSEL1 (in), H13 MSEL0 (in), H14 CONF_DONE (io), J3 nCE (in), J4 TDO (out), J5 TMS (in)
part K pins: A1 VCCIO8 (power), A16 VCCIO7 (power), C4 VCCIO8 (power), C7 VCCIO8 (power), C10 VCCIO7 (power), C13 VCCIO7 (power), E3 VCCIO1 (power), E14 VCCIO6 (power), G3 VCCIO1 (power), G6 VCCINT (power), G7 VCCINT (power), G8 VCCINT (power), G9 VCCINT (power), G10 VCCINT (power), G14 VCCIO6 (power), H6 VCCINT (power), H11 VCCINT (power), K3 VCCIO2 (power), K7 VCCINT (power), K14 VCCIO5 (power), M3 VCCIO2 (power), M14 VCCIO5 (power), P4 VCCIO3 (power), P7 VCCIO3 (power), P10 VCCIO4 (power), P13 VCCIO4 (power), T1 VCCIO3 (power), T16 VCCIO4 (power)
part L pins: B2 GND (power), B15 GND (power), C5 GND (power), C12 GND (power), D7 GND (power), D10 GND (power), E4 GND (power), E13 GND (power), G4 GND (power), G13 GND (power), H7 GND (power), H8 GND (power), H9 GND (power), H10 GND (power), J7 GND (power), J8 GND (power), J9 GND (power), J10 GND (power), K4 GND (power), K13 GND (power), M4 GND (power), M13 GND (power), N7 GND (power), N10 GND (power), P5 GND (power), P12 GND (power), R2 GND (power), R15 GND (power)
part M pins: D13 VCCD_PLL2 (power), E12 GNDA2 (power), F12 VCCA2 (power), L5 VCCA1 (power), M5 GNDA1 (power), N4 VCCD_PLL1 (power)
part A text: BANK 1
part B text: BANK 2
part C text: BANK 3
part D text: BANK 4
part E text: BANK 5
part F text: BANK 6
part G text: BANK 7
part H text: BANK 8

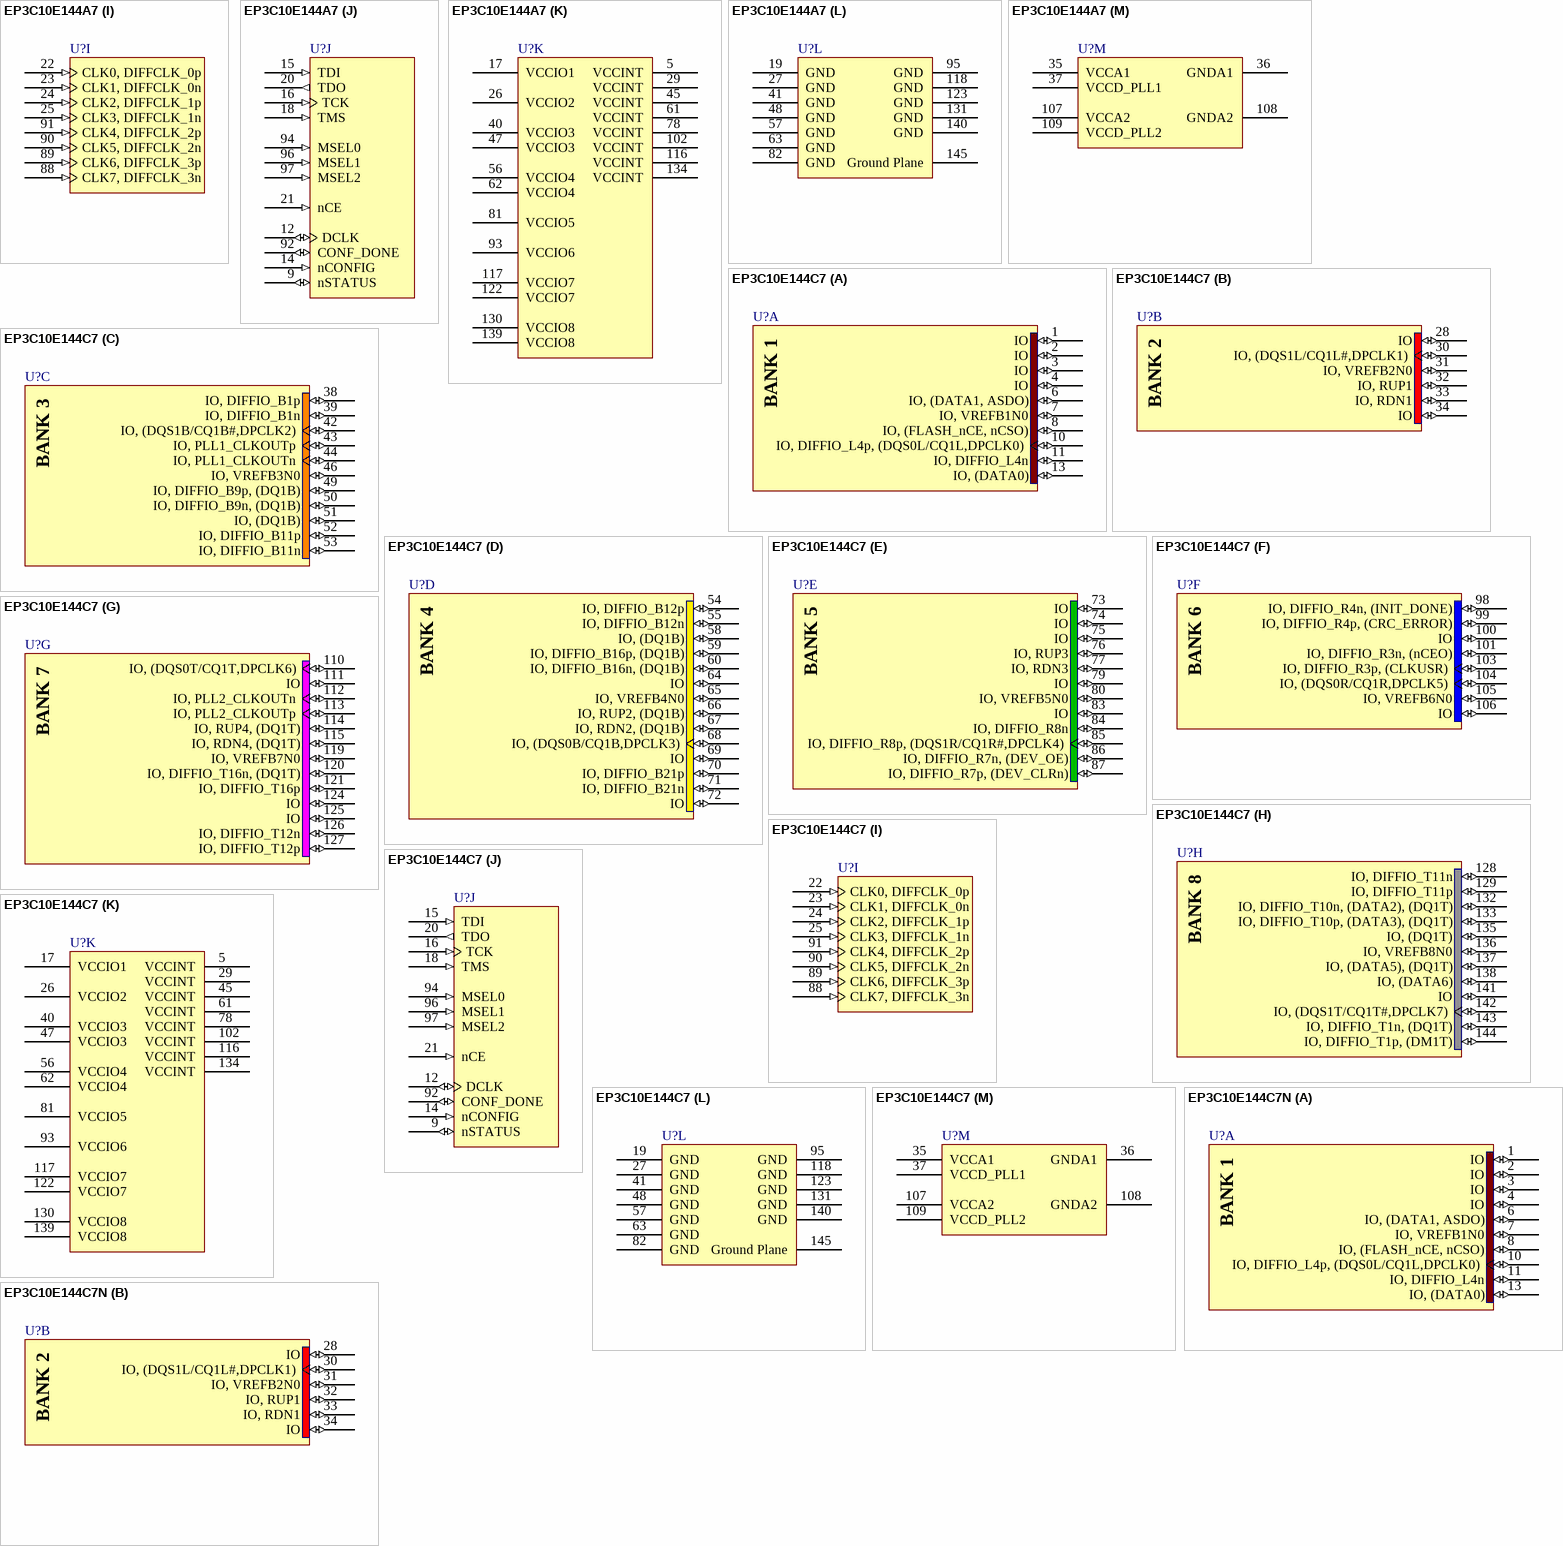
[diagram p30: symbols EP3C10E144A7 to EP3C10E144C7N]

## EP3C10E144A7
designator U?
Cyclone III Family FPGA, 94 I/O Pins, 4 PLLs, 144-Pin EQFP, Speed Grade 7, Automotive Grade, Pb-free; Note: Exposed pad at the bottom of this package must be connected to PCB GND.; Published: 27-Jun-2008; DatasheetVersion: ver2.0, May-2008; PackageVersion: ver16.0, Dec-2009; PackageReference: EQFP144; Publisher: Altium Limited; PackageDescription: 144-Pin Plastic Enhanced Quad Flat Pack (EQFP144) - Wire Bond; Code_JEDEC: MS-026-BFB; ComponentLink1Description: Manufacturer Link; ComponentLink1URL: http://www.altera.com/; ComponentLink2Description: Handbook (7.86MB); ComponentLink2URL: http://www.altera.com/literature/hb/cyc3/cyclone3_handbook.pdf; ComponentLink3Description: Packaging Specification; ComponentLink3URL: http://www.altera.com/literature/ds/dspkg.pdf
footprint EQFP144_N (Thin QFP, 144-Leads, Body 20x20mm, Pitch 0.5mm, IPC Medium Density)
footprint EQFP144_L (Thin QFP, 144-Leads, Body 20x20mm, Pitch 0.5mm, IPC High Density)
footprint EQFP144_M (Thin QFP, 144-Leads, Body 20x20mm, Pitch 0.5mm, IPC Low Density)
3D model EP3C10-EQFP144 (144-Pin Plastic Enhanced Quad Flat Pack (EQFP144) - Wire Bond)
signal-integrity model EP3C10_E144 (Cyclone III)
part A pins: 1 IO (io), 2 IO (io), 3 IO (io), 4 IO (io), 6 IO, (DATA1, ASDO) (io), 7 IO, VREFB1N0 (io), 8 IO, (FLASH_nCE, nCSO) (io), 10 IO, DIFFIO_L4p, (DQS0L/CQ1L,DPCLK0) (io), 11 IO, DIFFIO_L4n (io), 13 IO, (DATA0) (io)
part B pins: 28 IO (io), 30 IO, (DQS1L/CQ1L#,DPCLK1) (io), 31 IO, VREFB2N0 (io), 32 IO, RUP1 (io), 33 IO, RDN1 (io), 34 IO (io)
part C pins: 38 IO, DIFFIO_B1p (io), 39 IO, DIFFIO_B1n (io), 42 IO, (DQS1B/CQ1B#,DPCLK2) (io), 43 IO, PLL1_CLKOUTp (io), 44 IO, PLL1_CLKOUTn (io), 46 IO, VREFB3N0 (io), 49 IO, DIFFIO_B9p, (DQ1B) (io), 50 IO, DIFFIO_B9n, (DQ1B) (io), 51 IO, (DQ1B) (io), 52 IO, DIFFIO_B11p (io), 53 IO, DIFFIO_B11n (io)
part D pins: 54 IO, DIFFIO_B12p (io), 55 IO, DIFFIO_B12n (io), 58 IO, (DQ1B) (io), 59 IO, DIFFIO_B16p, (DQ1B) (io), 60 IO, DIFFIO_B16n, (DQ1B) (io), 64 IO (io), 65 IO, VREFB4N0 (io), 66 IO, RUP2, (DQ1B) (io), 67 IO, RDN2, (DQ1B) (io), 68 IO, (DQS0B/CQ1B,DPCLK3) (io), 69 IO (io), 70 IO, DIFFIO_B21p (io), 71 IO, DIFFIO_B21n (io), 72 IO (io)
part E pins: 73 IO (io), 74 IO (io), 75 IO (io), 76 IO, RUP3 (io), 77 IO, RDN3 (io), 79 IO (io), 80 IO, VREFB5N0 (io), 83 IO (io), 84 IO, DIFFIO_R8n (io), 85 IO, DIFFIO_R8p, (DQS1R/CQ1R#,DPCLK4) (io), 86 IO, DIFFIO_R7n, (DEV_OE) (io), 87 IO, DIFFIO_R7p, (DEV_CLRn) (io)
part F pins: 98 IO, DIFFIO_R4n, (INIT_DONE) (io), 99 IO, DIFFIO_R4p, (CRC_ERROR) (io), 100 IO (io), 101 IO, DIFFIO_R3n, (nCEO) (io), 103 IO, DIFFIO_R3p, (CLKUSR) (io), 104 IO, (DQS0R/CQ1R,DPCLK5) (io), 105 IO, VREFB6N0 (io), 106 IO (io)
part G pins: 110 IO, (DQS0T/CQ1T,DPCLK6) (io), 111 IO (io), 112 IO, PLL2_CLKOUTn (io), 113 IO, PLL2_CLKOUTp (io), 114 IO, RUP4, (DQ1T) (io), 115 IO, RDN4, (DQ1T) (io), 119 IO, VREFB7N0 (io), 120 IO, DIFFIO_T16n, (DQ1T) (io), 121 IO, DIFFIO_T16p (io), 124 IO (io), 125 IO (io), 126 IO, DIFFIO_T12n (io), 127 IO, DIFFIO_T12p (io)
part H pins: 128 IO, DIFFIO_T11n (io), 129 IO, DIFFIO_T11p (io), 132 IO, DIFFIO_T10n, (DATA2), (DQ1T) (io), 133 IO, DIFFIO_T10p, (DATA3), (DQ1T) (io), 135 IO, (DQ1T) (io), 136 IO, VREFB8N0 (io), 137 IO, (DATA5), (DQ1T) (io), 138 IO, (DATA6) (io), 141 IO (io), 142 IO, (DQS1T/CQ1T#,DPCLK7) (io), 143 IO, DIFFIO_T1n, (DQ1T) (io), 144 IO, DIFFIO_T1p, (DM1T) (io)
part I pins: 22 CLK0, DIFFCLK_0p (in), 23 CLK1, DIFFCLK_0n (in), 24 CLK2, DIFFCLK_1p (in), 25 CLK3, DIFFCLK_1n (in), 88 CLK7, DIFFCLK_3n (in), 89 CLK6, DIFFCLK_3p (in), 90 CLK5, DIFFCLK_2n (in), 91 CLK4, DIFFCLK_2p (in)
part J pins: 9 nSTATUS (io), 12 DCLK (io), 14 nCONFIG (in), 15 TDI (in), 16 TCK (in), 18 TMS (in), 20 TDO (out), 21 nCE (in), 92 CONF_DONE (io), 94 MSEL0 (in), 96 MSEL1 (in), 97 MSEL2 (in)
part K pins: 5 VCCINT (power), 17 VCCIO1 (power), 26 VCCIO2 (power), 29 VCCINT (power), 40 VCCIO3 (power), 45 VCCINT (power), 47 VCCIO3 (power), 56 VCCIO4 (power), 61 VCCINT (power), 62 VCCIO4 (power), 78 VCCINT (power), 81 VCCIO5 (power), 93 VCCIO6 (power), 102 VCCINT (power), 116 VCCINT (power), 117 VCCIO7 (power), 122 VCCIO7 (power), 130 VCCIO8 (power), 134 VCCINT (power), 139 VCCIO8 (power)
part L pins: 19 GND (power), 27 GND (power), 41 GND (power), 48 GND (power), 57 GND (power), 63 GND (power), 82 GND (power), 95 GND (power), 118 GND (power), 123 GND (power), 131 GND (power), 140 GND (power), 145 Ground Plane (power)
part M pins: 35 VCCA1 (power), 36 GNDA1 (power), 37 VCCD_PLL1 (power), 107 VCCA2 (power), 108 GNDA2 (power), 109 VCCD_PLL2 (power)
part A text: BANK 1
part B text: BANK 2
part C text: BANK 3
part D text: BANK 4
part E text: BANK 5
part F text: BANK 6
part G text: BANK 7
part H text: BANK 8

## EP3C10E144C7
designator U?
Cyclone III Family FPGA, 94 I/O Pins, 4 PLLs, 144-Pin EQFP, Speed Grade 7, Commercial Grade; Note: Exposed pad at the bottom of this package must be connected to PCB GND.; Published: 26-Feb-2007; LatestRevisionDate: 14-Dec-2007; LatestRevisionNote: Thermal Pad dimensions changed.; DatasheetVersion: ver2.0, May-2008; PackageVersion: ver16.0, Dec-2009; PackageReference: EQFP144; Publisher: Altium Limited; PackageDescription: 144-Pin Plastic Enhanced Quad Flat Pack (EQFP144) - Wire Bond; Supplier 1: Digi-Key; Supplier Part Number 1: 544-2424-ND; Code_JEDEC: MS-026-BFB; ComponentLink1Description: Manufacturer Link; ComponentLink1URL: http://www.altera.com/; ComponentLink2Description: Handbook (7.86MB); ComponentLink2URL: http://www.altera.com/literature/hb/cyc3/cyclone3_handbook.pdf; ComponentLink3Description: Packaging Specification; ComponentLink3URL: http://www.altera.com/literature/ds/dspkg.pdf
footprint EQFP144_N (Thin QFP, 144-Leads, Body 20x20mm, Pitch 0.5mm, IPC Medium Density)
footprint EQFP144_L (Thin QFP, 144-Leads, Body 20x20mm, Pitch 0.5mm, IPC High Density)
footprint EQFP144_M (Thin QFP, 144-Leads, Body 20x20mm, Pitch 0.5mm, IPC Low Density)
3D model EP3C10-EQFP144 (144-Pin Plastic Enhanced Quad Flat Pack (EQFP144) - Wire Bond)
signal-integrity model EP3C10_E144 (Cyclone III)
part A pins: 1 IO (io), 2 IO (io), 3 IO (io), 4 IO (io), 6 IO, (DATA1, ASDO) (io), 7 IO, VREFB1N0 (io), 8 IO, (FLASH_nCE, nCSO) (io), 10 IO, DIFFIO_L4p, (DQS0L/CQ1L,DPCLK0) (io), 11 IO, DIFFIO_L4n (io), 13 IO, (DATA0) (io)
part B pins: 28 IO (io), 30 IO, (DQS1L/CQ1L#,DPCLK1) (io), 31 IO, VREFB2N0 (io), 32 IO, RUP1 (io), 33 IO, RDN1 (io), 34 IO (io)
part C pins: 38 IO, DIFFIO_B1p (io), 39 IO, DIFFIO_B1n (io), 42 IO, (DQS1B/CQ1B#,DPCLK2) (io), 43 IO, PLL1_CLKOUTp (io), 44 IO, PLL1_CLKOUTn (io), 46 IO, VREFB3N0 (io), 49 IO, DIFFIO_B9p, (DQ1B) (io), 50 IO, DIFFIO_B9n, (DQ1B) (io), 51 IO, (DQ1B) (io), 52 IO, DIFFIO_B11p (io), 53 IO, DIFFIO_B11n (io)
part D pins: 54 IO, DIFFIO_B12p (io), 55 IO, DIFFIO_B12n (io), 58 IO, (DQ1B) (io), 59 IO, DIFFIO_B16p, (DQ1B) (io), 60 IO, DIFFIO_B16n, (DQ1B) (io), 64 IO (io), 65 IO, VREFB4N0 (io), 66 IO, RUP2, (DQ1B) (io), 67 IO, RDN2, (DQ1B) (io), 68 IO, (DQS0B/CQ1B,DPCLK3) (io), 69 IO (io), 70 IO, DIFFIO_B21p (io), 71 IO, DIFFIO_B21n (io), 72 IO (io)
part E pins: 73 IO (io), 74 IO (io), 75 IO (io), 76 IO, RUP3 (io), 77 IO, RDN3 (io), 79 IO (io), 80 IO, VREFB5N0 (io), 83 IO (io), 84 IO, DIFFIO_R8n (io), 85 IO, DIFFIO_R8p, (DQS1R/CQ1R#,DPCLK4) (io), 86 IO, DIFFIO_R7n, (DEV_OE) (io), 87 IO, DIFFIO_R7p, (DEV_CLRn) (io)
part F pins: 98 IO, DIFFIO_R4n, (INIT_DONE) (io), 99 IO, DIFFIO_R4p, (CRC_ERROR) (io), 100 IO (io), 101 IO, DIFFIO_R3n, (nCEO) (io), 103 IO, DIFFIO_R3p, (CLKUSR) (io), 104 IO, (DQS0R/CQ1R,DPCLK5) (io), 105 IO, VREFB6N0 (io), 106 IO (io)
part G pins: 110 IO, (DQS0T/CQ1T,DPCLK6) (io), 111 IO (io), 112 IO, PLL2_CLKOUTn (io), 113 IO, PLL2_CLKOUTp (io), 114 IO, RUP4, (DQ1T) (io), 115 IO, RDN4, (DQ1T) (io), 119 IO, VREFB7N0 (io), 120 IO, DIFFIO_T16n, (DQ1T) (io), 121 IO, DIFFIO_T16p (io), 124 IO (io), 125 IO (io), 126 IO, DIFFIO_T12n (io), 127 IO, DIFFIO_T12p (io)
part H pins: 128 IO, DIFFIO_T11n (io), 129 IO, DIFFIO_T11p (io), 132 IO, DIFFIO_T10n, (DATA2), (DQ1T) (io), 133 IO, DIFFIO_T10p, (DATA3), (DQ1T) (io), 135 IO, (DQ1T) (io), 136 IO, VREFB8N0 (io), 137 IO, (DATA5), (DQ1T) (io), 138 IO, (DATA6) (io), 141 IO (io), 142 IO, (DQS1T/CQ1T#,DPCLK7) (io), 143 IO, DIFFIO_T1n, (DQ1T) (io), 144 IO, DIFFIO_T1p, (DM1T) (io)
part I pins: 22 CLK0, DIFFCLK_0p (in), 23 CLK1, DIFFCLK_0n (in), 24 CLK2, DIFFCLK_1p (in), 25 CLK3, DIFFCLK_1n (in), 88 CLK7, DIFFCLK_3n (in), 89 CLK6, DIFFCLK_3p (in), 90 CLK5, DIFFCLK_2n (in), 91 CLK4, DIFFCLK_2p (in)
part J pins: 9 nSTATUS (io), 12 DCLK (io), 14 nCONFIG (in), 15 TDI (in), 16 TCK (in), 18 TMS (in), 20 TDO (out), 21 nCE (in), 92 CONF_DONE (io), 94 MSEL0 (in), 96 MSEL1 (in), 97 MSEL2 (in)
part K pins: 5 VCCINT (power), 17 VCCIO1 (power), 26 VCCIO2 (power), 29 VCCINT (power), 40 VCCIO3 (power), 45 VCCINT (power), 47 VCCIO3 (power), 56 VCCIO4 (power), 61 VCCINT (power), 62 VCCIO4 (power), 78 VCCINT (power), 81 VCCIO5 (power), 93 VCCIO6 (power), 102 VCCINT (power), 116 VCCINT (power), 117 VCCIO7 (power), 122 VCCIO7 (power), 130 VCCIO8 (power), 134 VCCINT (power), 139 VCCIO8 (power)
part L pins: 19 GND (power), 27 GND (power), 41 GND (power), 48 GND (power), 57 GND (power), 63 GND (power), 82 GND (power), 95 GND (power), 118 GND (power), 123 GND (power), 131 GND (power), 140 GND (power), 145 Ground Plane (power)
part M pins: 35 VCCA1 (power), 36 GNDA1 (power), 37 VCCD_PLL1 (power), 107 VCCA2 (power), 108 GNDA2 (power), 109 VCCD_PLL2 (power)
part A text: BANK 1
part B text: BANK 2
part C text: BANK 3
part D text: BANK 4
part E text: BANK 5
part F text: BANK 6
part G text: BANK 7
part H text: BANK 8

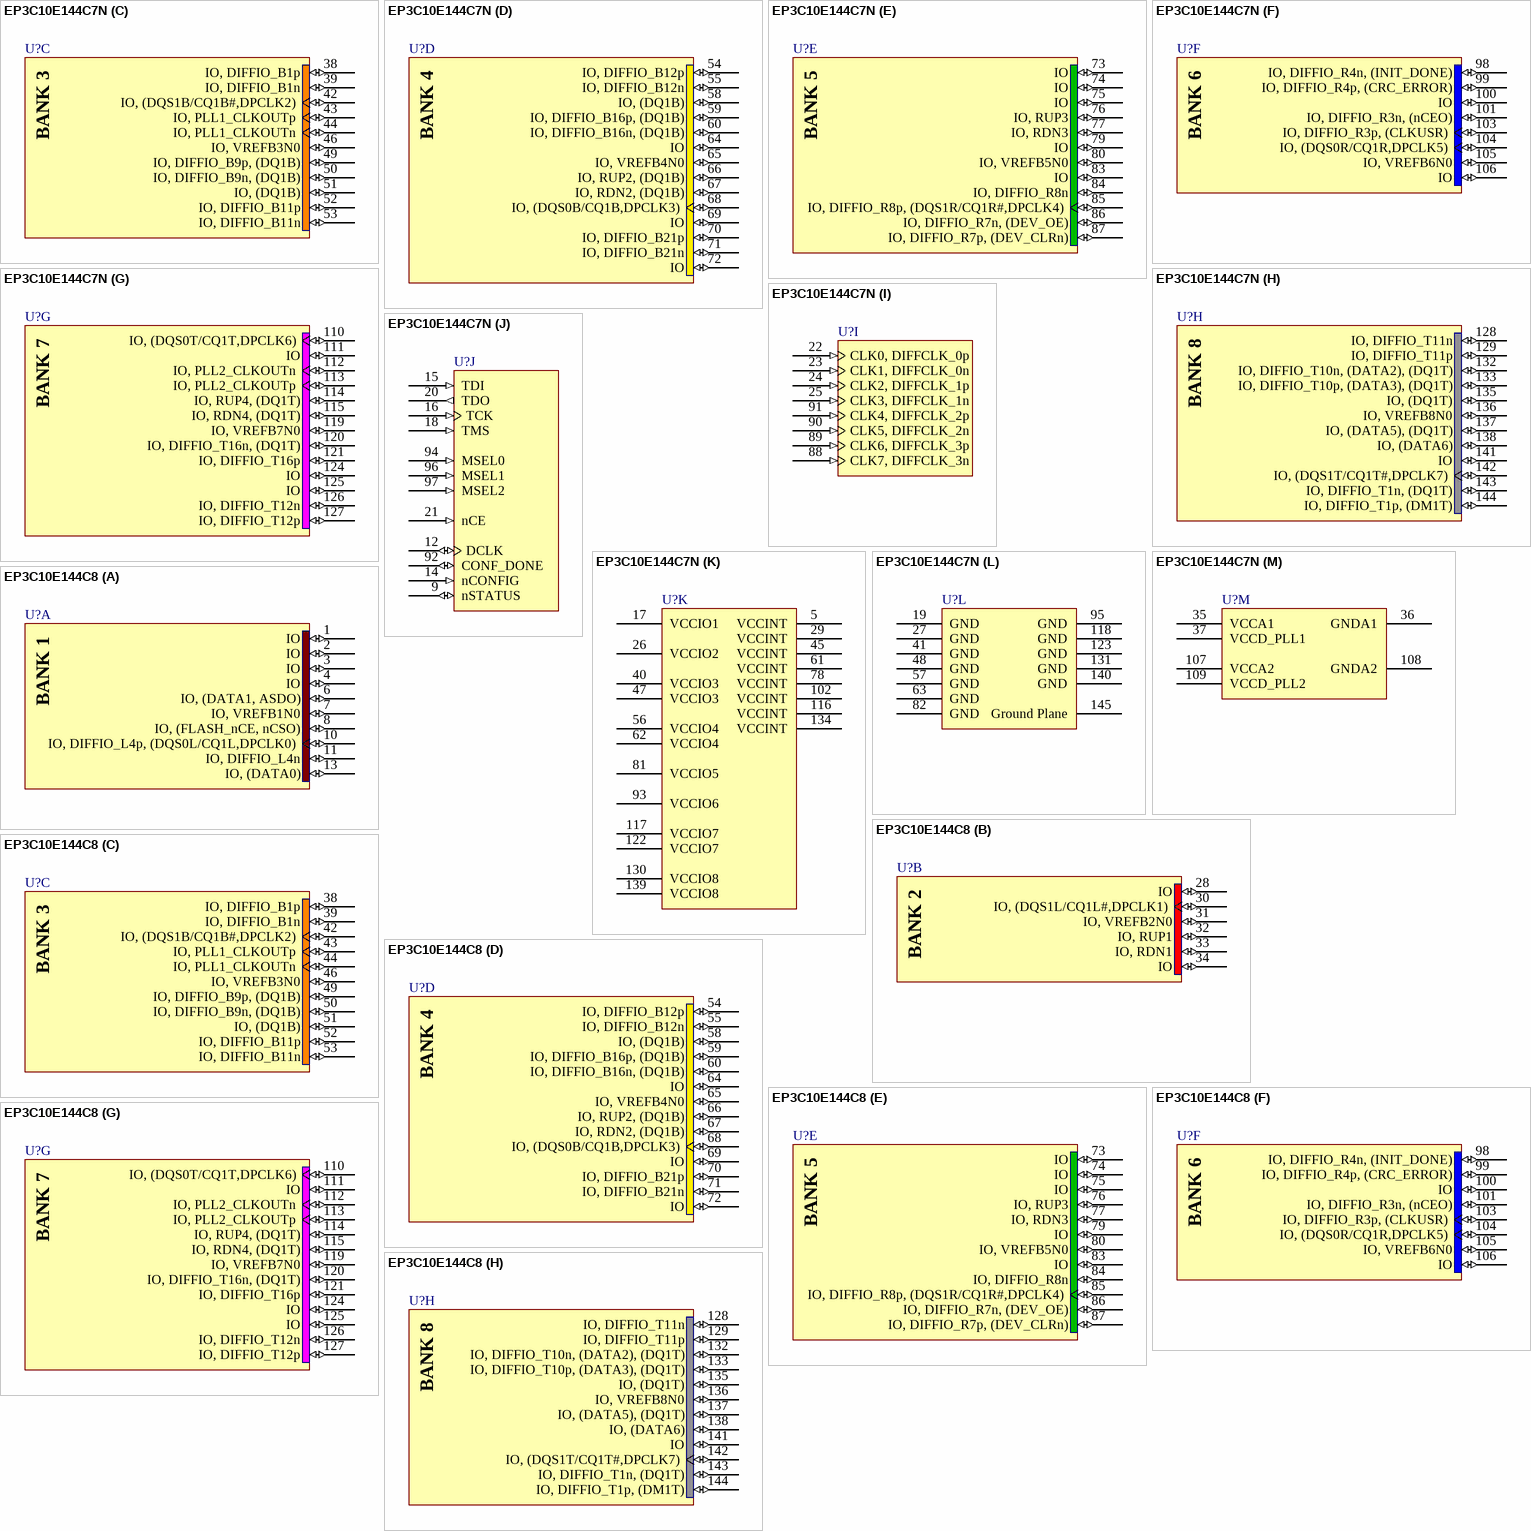
[diagram p31: symbols EP3C10E144C7N to EP3C10E144C8]

## EP3C10E144C7N
designator U?
Cyclone III Family FPGA, 94 I/O Pins, 4 PLLs, 144-Pin EQFP, Speed Grade 7, Commercial Grade, Pb-Free; Note: Exposed pad at the bottom of this package must be connected to PCB GND.; Published: 26-Feb-2007; LatestRevisionDate: 14-Dec-2007; LatestRevisionNote: Thermal Pad dimensions changed.; DatasheetVersion: ver2.0, May-2008; PackageVersion: ver16.0, Dec-2009; PackageReference: EQFP144; Publisher: Altium Limited; PackageDescription: 144-Pin Plastic Enhanced Quad Flat Pack (EQFP144) - Wire Bond; Supplier 1: Digi-Key; Supplier Part Number 1: 544-2425-ND; Supplier 2: Farnell; Supplier Part Number 2: 1549363; Code_JEDEC: MS-026-BFB; ComponentLink1Description: Manufacturer Link; ComponentLink1URL: http://www.altera.com/; ComponentLink2Description: Handbook (7.86MB); ComponentLink2URL: http://www.altera.com/literature/hb/cyc3/cyclone3_handbook.pdf; ComponentLink3Description: Packaging Specification; ComponentLink3URL: http://www.altera.com/literature/ds/dspkg.pdf
footprint EQFP144_N (Thin QFP, 144-Leads, Body 20x20mm, Pitch 0.5mm, IPC Medium Density)
footprint EQFP144_L (Thin QFP, 144-Leads, Body 20x20mm, Pitch 0.5mm, IPC High Density)
footprint EQFP144_M (Thin QFP, 144-Leads, Body 20x20mm, Pitch 0.5mm, IPC Low Density)
3D model EP3C10-EQFP144 (144-Pin Plastic Enhanced Quad Flat Pack (EQFP144) - Wire Bond)
signal-integrity model EP3C10_E144 (Cyclone III)
part A pins: 1 IO (io), 2 IO (io), 3 IO (io), 4 IO (io), 6 IO, (DATA1, ASDO) (io), 7 IO, VREFB1N0 (io), 8 IO, (FLASH_nCE, nCSO) (io), 10 IO, DIFFIO_L4p, (DQS0L/CQ1L,DPCLK0) (io), 11 IO, DIFFIO_L4n (io), 13 IO, (DATA0) (io)
part B pins: 28 IO (io), 30 IO, (DQS1L/CQ1L#,DPCLK1) (io), 31 IO, VREFB2N0 (io), 32 IO, RUP1 (io), 33 IO, RDN1 (io), 34 IO (io)
part C pins: 38 IO, DIFFIO_B1p (io), 39 IO, DIFFIO_B1n (io), 42 IO, (DQS1B/CQ1B#,DPCLK2) (io), 43 IO, PLL1_CLKOUTp (io), 44 IO, PLL1_CLKOUTn (io), 46 IO, VREFB3N0 (io), 49 IO, DIFFIO_B9p, (DQ1B) (io), 50 IO, DIFFIO_B9n, (DQ1B) (io), 51 IO, (DQ1B) (io), 52 IO, DIFFIO_B11p (io), 53 IO, DIFFIO_B11n (io)
part D pins: 54 IO, DIFFIO_B12p (io), 55 IO, DIFFIO_B12n (io), 58 IO, (DQ1B) (io), 59 IO, DIFFIO_B16p, (DQ1B) (io), 60 IO, DIFFIO_B16n, (DQ1B) (io), 64 IO (io), 65 IO, VREFB4N0 (io), 66 IO, RUP2, (DQ1B) (io), 67 IO, RDN2, (DQ1B) (io), 68 IO, (DQS0B/CQ1B,DPCLK3) (io), 69 IO (io), 70 IO, DIFFIO_B21p (io), 71 IO, DIFFIO_B21n (io), 72 IO (io)
part E pins: 73 IO (io), 74 IO (io), 75 IO (io), 76 IO, RUP3 (io), 77 IO, RDN3 (io), 79 IO (io), 80 IO, VREFB5N0 (io), 83 IO (io), 84 IO, DIFFIO_R8n (io), 85 IO, DIFFIO_R8p, (DQS1R/CQ1R#,DPCLK4) (io), 86 IO, DIFFIO_R7n, (DEV_OE) (io), 87 IO, DIFFIO_R7p, (DEV_CLRn) (io)
part F pins: 98 IO, DIFFIO_R4n, (INIT_DONE) (io), 99 IO, DIFFIO_R4p, (CRC_ERROR) (io), 100 IO (io), 101 IO, DIFFIO_R3n, (nCEO) (io), 103 IO, DIFFIO_R3p, (CLKUSR) (io), 104 IO, (DQS0R/CQ1R,DPCLK5) (io), 105 IO, VREFB6N0 (io), 106 IO (io)
part G pins: 110 IO, (DQS0T/CQ1T,DPCLK6) (io), 111 IO (io), 112 IO, PLL2_CLKOUTn (io), 113 IO, PLL2_CLKOUTp (io), 114 IO, RUP4, (DQ1T) (io), 115 IO, RDN4, (DQ1T) (io), 119 IO, VREFB7N0 (io), 120 IO, DIFFIO_T16n, (DQ1T) (io), 121 IO, DIFFIO_T16p (io), 124 IO (io), 125 IO (io), 126 IO, DIFFIO_T12n (io), 127 IO, DIFFIO_T12p (io)
part H pins: 128 IO, DIFFIO_T11n (io), 129 IO, DIFFIO_T11p (io), 132 IO, DIFFIO_T10n, (DATA2), (DQ1T) (io), 133 IO, DIFFIO_T10p, (DATA3), (DQ1T) (io), 135 IO, (DQ1T) (io), 136 IO, VREFB8N0 (io), 137 IO, (DATA5), (DQ1T) (io), 138 IO, (DATA6) (io), 141 IO (io), 142 IO, (DQS1T/CQ1T#,DPCLK7) (io), 143 IO, DIFFIO_T1n, (DQ1T) (io), 144 IO, DIFFIO_T1p, (DM1T) (io)
part I pins: 22 CLK0, DIFFCLK_0p (in), 23 CLK1, DIFFCLK_0n (in), 24 CLK2, DIFFCLK_1p (in), 25 CLK3, DIFFCLK_1n (in), 88 CLK7, DIFFCLK_3n (in), 89 CLK6, DIFFCLK_3p (in), 90 CLK5, DIFFCLK_2n (in), 91 CLK4, DIFFCLK_2p (in)
part J pins: 9 nSTATUS (io), 12 DCLK (io), 14 nCONFIG (in), 15 TDI (in), 16 TCK (in), 18 TMS (in), 20 TDO (out), 21 nCE (in), 92 CONF_DONE (io), 94 MSEL0 (in), 96 MSEL1 (in), 97 MSEL2 (in)
part K pins: 5 VCCINT (power), 17 VCCIO1 (power), 26 VCCIO2 (power), 29 VCCINT (power), 40 VCCIO3 (power), 45 VCCINT (power), 47 VCCIO3 (power), 56 VCCIO4 (power), 61 VCCINT (power), 62 VCCIO4 (power), 78 VCCINT (power), 81 VCCIO5 (power), 93 VCCIO6 (power), 102 VCCINT (power), 116 VCCINT (power), 117 VCCIO7 (power), 122 VCCIO7 (power), 130 VCCIO8 (power), 134 VCCINT (power), 139 VCCIO8 (power)
part L pins: 19 GND (power), 27 GND (power), 41 GND (power), 48 GND (power), 57 GND (power), 63 GND (power), 82 GND (power), 95 GND (power), 118 GND (power), 123 GND (power), 131 GND (power), 140 GND (power), 145 Ground Plane (power)
part M pins: 35 VCCA1 (power), 36 GNDA1 (power), 37 VCCD_PLL1 (power), 107 VCCA2 (power), 108 GNDA2 (power), 109 VCCD_PLL2 (power)
part A text: BANK 1
part B text: BANK 2
part C text: BANK 3
part D text: BANK 4
part E text: BANK 5
part F text: BANK 6
part G text: BANK 7
part H text: BANK 8

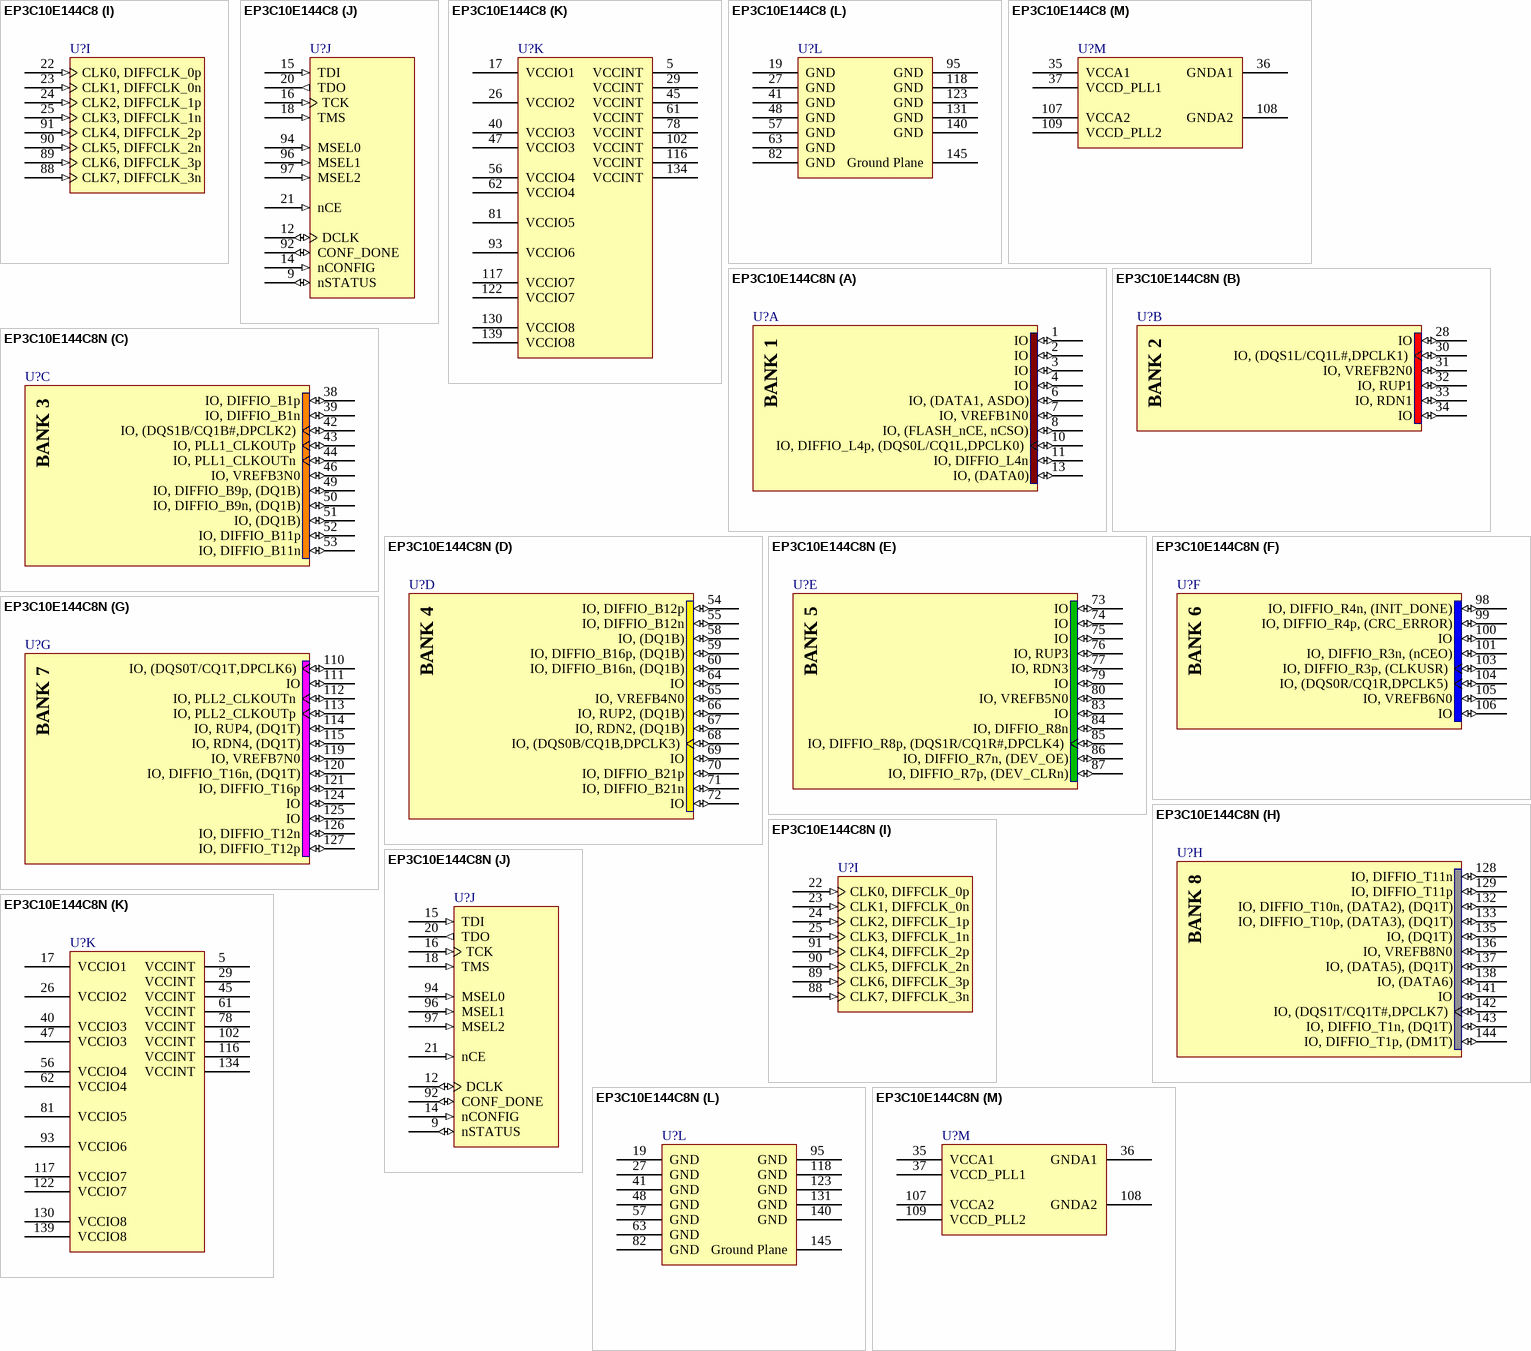
[diagram p32: symbols EP3C10E144C8 to EP3C10E144C8N]

## EP3C10E144C8
designator U?
Cyclone III Family FPGA, 94 I/O Pins, 4 PLLs, 144-Pin EQFP, Speed Grade 8, Commercial Grade; Note: Exposed pad at the bottom of this package must be connected to PCB GND.; Published: 26-Feb-2007; LatestRevisionDate: 14-Dec-2007; LatestRevisionNote: Thermal Pad dimensions changed.; DatasheetVersion: ver2.0, May-2008; PackageVersion: ver16.0, Dec-2009; PackageReference: EQFP144; Publisher: Altium Limited; PackageDescription: 144-Pin Plastic Enhanced Quad Flat Pack (EQFP144) - Wire Bond; Supplier 1: Digi-Key; Supplier Part Number 1: 544-2426-ND; Code_JEDEC: MS-026-BFB; ComponentLink1Description: Manufacturer Link; ComponentLink1URL: http://www.altera.com/; ComponentLink2Description: Handbook (7.86MB); ComponentLink2URL: http://www.altera.com/literature/hb/cyc3/cyclone3_handbook.pdf; ComponentLink3Description: Packaging Specification; ComponentLink3URL: http://www.altera.com/literature/ds/dspkg.pdf
footprint EQFP144_N (Thin QFP, 144-Leads, Body 20x20mm, Pitch 0.5mm, IPC Medium Density)
footprint EQFP144_L (Thin QFP, 144-Leads, Body 20x20mm, Pitch 0.5mm, IPC High Density)
footprint EQFP144_M (Thin QFP, 144-Leads, Body 20x20mm, Pitch 0.5mm, IPC Low Density)
3D model EP3C10-EQFP144 (144-Pin Plastic Enhanced Quad Flat Pack (EQFP144) - Wire Bond)
signal-integrity model EP3C10_E144 (Cyclone III)
part A pins: 1 IO (io), 2 IO (io), 3 IO (io), 4 IO (io), 6 IO, (DATA1, ASDO) (io), 7 IO, VREFB1N0 (io), 8 IO, (FLASH_nCE, nCSO) (io), 10 IO, DIFFIO_L4p, (DQS0L/CQ1L,DPCLK0) (io), 11 IO, DIFFIO_L4n (io), 13 IO, (DATA0) (io)
part B pins: 28 IO (io), 30 IO, (DQS1L/CQ1L#,DPCLK1) (io), 31 IO, VREFB2N0 (io), 32 IO, RUP1 (io), 33 IO, RDN1 (io), 34 IO (io)
part C pins: 38 IO, DIFFIO_B1p (io), 39 IO, DIFFIO_B1n (io), 42 IO, (DQS1B/CQ1B#,DPCLK2) (io), 43 IO, PLL1_CLKOUTp (io), 44 IO, PLL1_CLKOUTn (io), 46 IO, VREFB3N0 (io), 49 IO, DIFFIO_B9p, (DQ1B) (io), 50 IO, DIFFIO_B9n, (DQ1B) (io), 51 IO, (DQ1B) (io), 52 IO, DIFFIO_B11p (io), 53 IO, DIFFIO_B11n (io)
part D pins: 54 IO, DIFFIO_B12p (io), 55 IO, DIFFIO_B12n (io), 58 IO, (DQ1B) (io), 59 IO, DIFFIO_B16p, (DQ1B) (io), 60 IO, DIFFIO_B16n, (DQ1B) (io), 64 IO (io), 65 IO, VREFB4N0 (io), 66 IO, RUP2, (DQ1B) (io), 67 IO, RDN2, (DQ1B) (io), 68 IO, (DQS0B/CQ1B,DPCLK3) (io), 69 IO (io), 70 IO, DIFFIO_B21p (io), 71 IO, DIFFIO_B21n (io), 72 IO (io)
part E pins: 73 IO (io), 74 IO (io), 75 IO (io), 76 IO, RUP3 (io), 77 IO, RDN3 (io), 79 IO (io), 80 IO, VREFB5N0 (io), 83 IO (io), 84 IO, DIFFIO_R8n (io), 85 IO, DIFFIO_R8p, (DQS1R/CQ1R#,DPCLK4) (io), 86 IO, DIFFIO_R7n, (DEV_OE) (io), 87 IO, DIFFIO_R7p, (DEV_CLRn) (io)
part F pins: 98 IO, DIFFIO_R4n, (INIT_DONE) (io), 99 IO, DIFFIO_R4p, (CRC_ERROR) (io), 100 IO (io), 101 IO, DIFFIO_R3n, (nCEO) (io), 103 IO, DIFFIO_R3p, (CLKUSR) (io), 104 IO, (DQS0R/CQ1R,DPCLK5) (io), 105 IO, VREFB6N0 (io), 106 IO (io)
part G pins: 110 IO, (DQS0T/CQ1T,DPCLK6) (io), 111 IO (io), 112 IO, PLL2_CLKOUTn (io), 113 IO, PLL2_CLKOUTp (io), 114 IO, RUP4, (DQ1T) (io), 115 IO, RDN4, (DQ1T) (io), 119 IO, VREFB7N0 (io), 120 IO, DIFFIO_T16n, (DQ1T) (io), 121 IO, DIFFIO_T16p (io), 124 IO (io), 125 IO (io), 126 IO, DIFFIO_T12n (io), 127 IO, DIFFIO_T12p (io)
part H pins: 128 IO, DIFFIO_T11n (io), 129 IO, DIFFIO_T11p (io), 132 IO, DIFFIO_T10n, (DATA2), (DQ1T) (io), 133 IO, DIFFIO_T10p, (DATA3), (DQ1T) (io), 135 IO, (DQ1T) (io), 136 IO, VREFB8N0 (io), 137 IO, (DATA5), (DQ1T) (io), 138 IO, (DATA6) (io), 141 IO (io), 142 IO, (DQS1T/CQ1T#,DPCLK7) (io), 143 IO, DIFFIO_T1n, (DQ1T) (io), 144 IO, DIFFIO_T1p, (DM1T) (io)
part I pins: 22 CLK0, DIFFCLK_0p (in), 23 CLK1, DIFFCLK_0n (in), 24 CLK2, DIFFCLK_1p (in), 25 CLK3, DIFFCLK_1n (in), 88 CLK7, DIFFCLK_3n (in), 89 CLK6, DIFFCLK_3p (in), 90 CLK5, DIFFCLK_2n (in), 91 CLK4, DIFFCLK_2p (in)
part J pins: 9 nSTATUS (io), 12 DCLK (io), 14 nCONFIG (in), 15 TDI (in), 16 TCK (in), 18 TMS (in), 20 TDO (out), 21 nCE (in), 92 CONF_DONE (io), 94 MSEL0 (in), 96 MSEL1 (in), 97 MSEL2 (in)
part K pins: 5 VCCINT (power), 17 VCCIO1 (power), 26 VCCIO2 (power), 29 VCCINT (power), 40 VCCIO3 (power), 45 VCCINT (power), 47 VCCIO3 (power), 56 VCCIO4 (power), 61 VCCINT (power), 62 VCCIO4 (power), 78 VCCINT (power), 81 VCCIO5 (power), 93 VCCIO6 (power), 102 VCCINT (power), 116 VCCINT (power), 117 VCCIO7 (power), 122 VCCIO7 (power), 130 VCCIO8 (power), 134 VCCINT (power), 139 VCCIO8 (power)
part L pins: 19 GND (power), 27 GND (power), 41 GND (power), 48 GND (power), 57 GND (power), 63 GND (power), 82 GND (power), 95 GND (power), 118 GND (power), 123 GND (power), 131 GND (power), 140 GND (power), 145 Ground Plane (power)
part M pins: 35 VCCA1 (power), 36 GNDA1 (power), 37 VCCD_PLL1 (power), 107 VCCA2 (power), 108 GNDA2 (power), 109 VCCD_PLL2 (power)
part A text: BANK 1
part B text: BANK 2
part C text: BANK 3
part D text: BANK 4
part E text: BANK 5
part F text: BANK 6
part G text: BANK 7
part H text: BANK 8

## EP3C10E144C8N
designator U?
Cyclone III Family FPGA, 94 I/O Pins, 4 PLLs, 144-Pin EQFP, Speed Grade 8, Commercial Grade, Pb-Free; Note: Exposed pad at the bottom of this package must be connected to PCB GND.; Published: 26-Feb-2007; LatestRevisionDate: 14-Dec-2007; LatestRevisionNote: Thermal Pad dimensions changed.; DatasheetVersion: ver2.0, May-2008; PackageVersion: ver16.0, Dec-2009; PackageReference: EQFP144; Publisher: Altium Limited; PackageDescription: 144-Pin Plastic Enhanced Quad Flat Pack (EQFP144) - Wire Bond; Supplier 1: Digi-Key; Supplier Part Number 1: 544-2427-ND; Supplier 2: Farnell; Supplier Part Number 2: 1635058; Code_JEDEC: MS-026-BFB; ComponentLink1Description: Manufacturer Link; ComponentLink1URL: http://www.altera.com/; ComponentLink2Description: Handbook (7.86MB); ComponentLink2URL: http://www.altera.com/literature/hb/cyc3/cyclone3_handbook.pdf; ComponentLink3Description: Packaging Specification; ComponentLink3URL: http://www.altera.com/literature/ds/dspkg.pdf
footprint EQFP144_N (Thin QFP, 144-Leads, Body 20x20mm, Pitch 0.5mm, IPC Medium Density)
footprint EQFP144_L (Thin QFP, 144-Leads, Body 20x20mm, Pitch 0.5mm, IPC High Density)
footprint EQFP144_M (Thin QFP, 144-Leads, Body 20x20mm, Pitch 0.5mm, IPC Low Density)
3D model EP3C10-EQFP144 (144-Pin Plastic Enhanced Quad Flat Pack (EQFP144) - Wire Bond)
signal-integrity model EP3C10_E144 (Cyclone III)
part A pins: 1 IO (io), 2 IO (io), 3 IO (io), 4 IO (io), 6 IO, (DATA1, ASDO) (io), 7 IO, VREFB1N0 (io), 8 IO, (FLASH_nCE, nCSO) (io), 10 IO, DIFFIO_L4p, (DQS0L/CQ1L,DPCLK0) (io), 11 IO, DIFFIO_L4n (io), 13 IO, (DATA0) (io)
part B pins: 28 IO (io), 30 IO, (DQS1L/CQ1L#,DPCLK1) (io), 31 IO, VREFB2N0 (io), 32 IO, RUP1 (io), 33 IO, RDN1 (io), 34 IO (io)
part C pins: 38 IO, DIFFIO_B1p (io), 39 IO, DIFFIO_B1n (io), 42 IO, (DQS1B/CQ1B#,DPCLK2) (io), 43 IO, PLL1_CLKOUTp (io), 44 IO, PLL1_CLKOUTn (io), 46 IO, VREFB3N0 (io), 49 IO, DIFFIO_B9p, (DQ1B) (io), 50 IO, DIFFIO_B9n, (DQ1B) (io), 51 IO, (DQ1B) (io), 52 IO, DIFFIO_B11p (io), 53 IO, DIFFIO_B11n (io)
part D pins: 54 IO, DIFFIO_B12p (io), 55 IO, DIFFIO_B12n (io), 58 IO, (DQ1B) (io), 59 IO, DIFFIO_B16p, (DQ1B) (io), 60 IO, DIFFIO_B16n, (DQ1B) (io), 64 IO (io), 65 IO, VREFB4N0 (io), 66 IO, RUP2, (DQ1B) (io), 67 IO, RDN2, (DQ1B) (io), 68 IO, (DQS0B/CQ1B,DPCLK3) (io), 69 IO (io), 70 IO, DIFFIO_B21p (io), 71 IO, DIFFIO_B21n (io), 72 IO (io)
part E pins: 73 IO (io), 74 IO (io), 75 IO (io), 76 IO, RUP3 (io), 77 IO, RDN3 (io), 79 IO (io), 80 IO, VREFB5N0 (io), 83 IO (io), 84 IO, DIFFIO_R8n (io), 85 IO, DIFFIO_R8p, (DQS1R/CQ1R#,DPCLK4) (io), 86 IO, DIFFIO_R7n, (DEV_OE) (io), 87 IO, DIFFIO_R7p, (DEV_CLRn) (io)
part F pins: 98 IO, DIFFIO_R4n, (INIT_DONE) (io), 99 IO, DIFFIO_R4p, (CRC_ERROR) (io), 100 IO (io), 101 IO, DIFFIO_R3n, (nCEO) (io), 103 IO, DIFFIO_R3p, (CLKUSR) (io), 104 IO, (DQS0R/CQ1R,DPCLK5) (io), 105 IO, VREFB6N0 (io), 106 IO (io)
part G pins: 110 IO, (DQS0T/CQ1T,DPCLK6) (io), 111 IO (io), 112 IO, PLL2_CLKOUTn (io), 113 IO, PLL2_CLKOUTp (io), 114 IO, RUP4, (DQ1T) (io), 115 IO, RDN4, (DQ1T) (io), 119 IO, VREFB7N0 (io), 120 IO, DIFFIO_T16n, (DQ1T) (io), 121 IO, DIFFIO_T16p (io), 124 IO (io), 125 IO (io), 126 IO, DIFFIO_T12n (io), 127 IO, DIFFIO_T12p (io)
part H pins: 128 IO, DIFFIO_T11n (io), 129 IO, DIFFIO_T11p (io), 132 IO, DIFFIO_T10n, (DATA2), (DQ1T) (io), 133 IO, DIFFIO_T10p, (DATA3), (DQ1T) (io), 135 IO, (DQ1T) (io), 136 IO, VREFB8N0 (io), 137 IO, (DATA5), (DQ1T) (io), 138 IO, (DATA6) (io), 141 IO (io), 142 IO, (DQS1T/CQ1T#,DPCLK7) (io), 143 IO, DIFFIO_T1n, (DQ1T) (io), 144 IO, DIFFIO_T1p, (DM1T) (io)
part I pins: 22 CLK0, DIFFCLK_0p (in), 23 CLK1, DIFFCLK_0n (in), 24 CLK2, DIFFCLK_1p (in), 25 CLK3, DIFFCLK_1n (in), 88 CLK7, DIFFCLK_3n (in), 89 CLK6, DIFFCLK_3p (in), 90 CLK5, DIFFCLK_2n (in), 91 CLK4, DIFFCLK_2p (in)
part J pins: 9 nSTATUS (io), 12 DCLK (io), 14 nCONFIG (in), 15 TDI (in), 16 TCK (in), 18 TMS (in), 20 TDO (out), 21 nCE (in), 92 CONF_DONE (io), 94 MSEL0 (in), 96 MSEL1 (in), 97 MSEL2 (in)
part K pins: 5 VCCINT (power), 17 VCCIO1 (power), 26 VCCIO2 (power), 29 VCCINT (power), 40 VCCIO3 (power), 45 VCCINT (power), 47 VCCIO3 (power), 56 VCCIO4 (power), 61 VCCINT (power), 62 VCCIO4 (power), 78 VCCINT (power), 81 VCCIO5 (power), 93 VCCIO6 (power), 102 VCCINT (power), 116 VCCINT (power), 117 VCCIO7 (power), 122 VCCIO7 (power), 130 VCCIO8 (power), 134 VCCINT (power), 139 VCCIO8 (power)
part L pins: 19 GND (power), 27 GND (power), 41 GND (power), 48 GND (power), 57 GND (power), 63 GND (power), 82 GND (power), 95 GND (power), 118 GND (power), 123 GND (power), 131 GND (power), 140 GND (power), 145 Ground Plane (power)
part M pins: 35 VCCA1 (power), 36 GNDA1 (power), 37 VCCD_PLL1 (power), 107 VCCA2 (power), 108 GNDA2 (power), 109 VCCD_PLL2 (power)
part A text: BANK 1
part B text: BANK 2
part C text: BANK 3
part D text: BANK 4
part E text: BANK 5
part F text: BANK 6
part G text: BANK 7
part H text: BANK 8

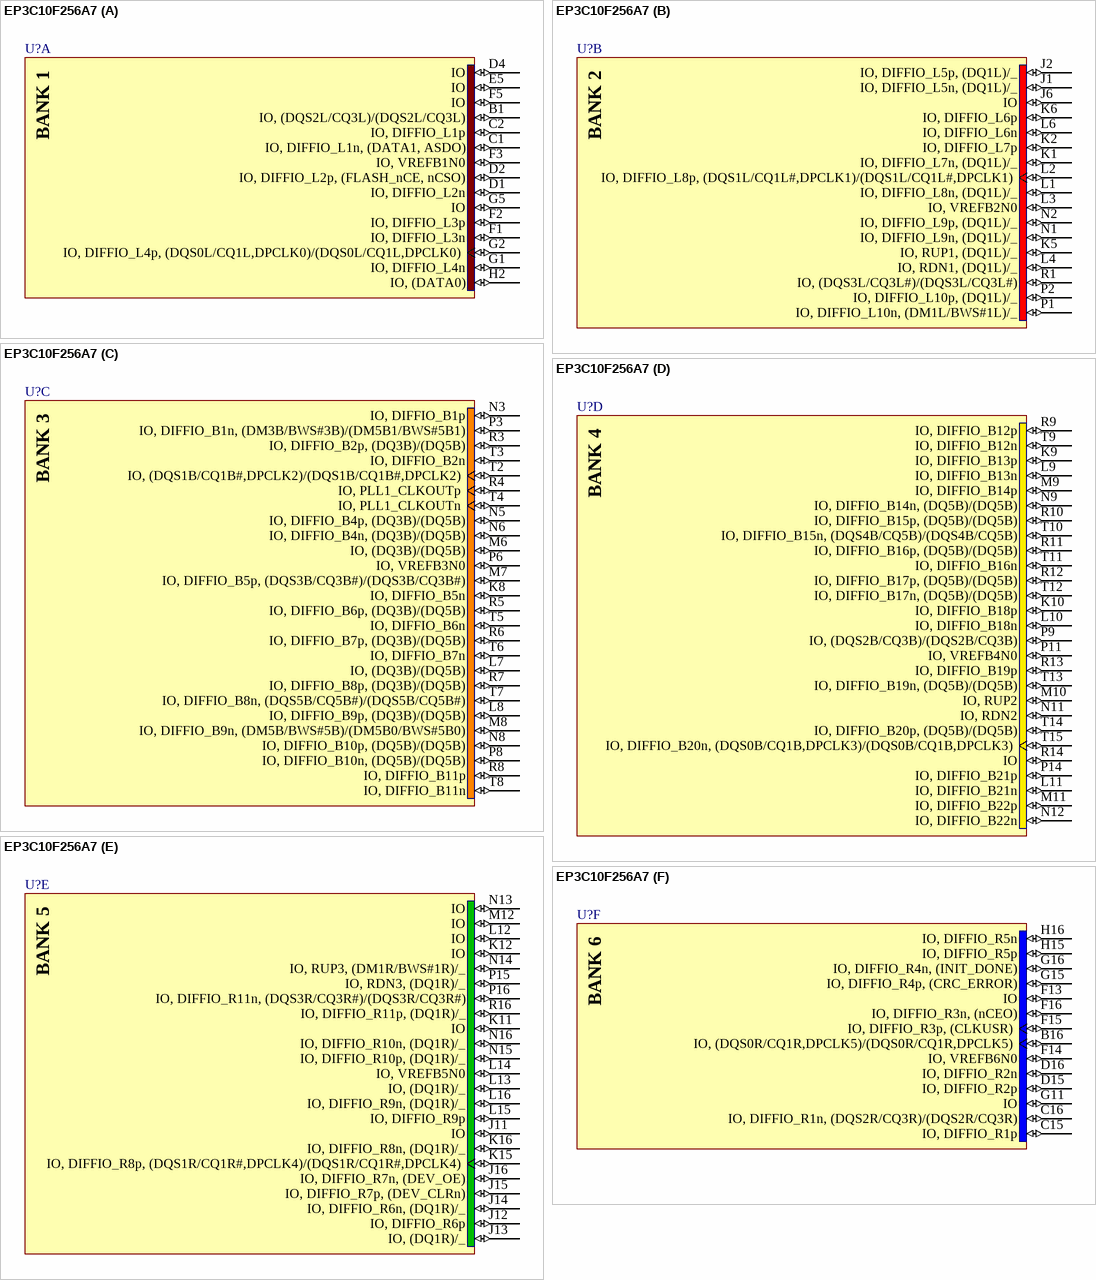
[diagram p33: symbol EP3C10F256A7]

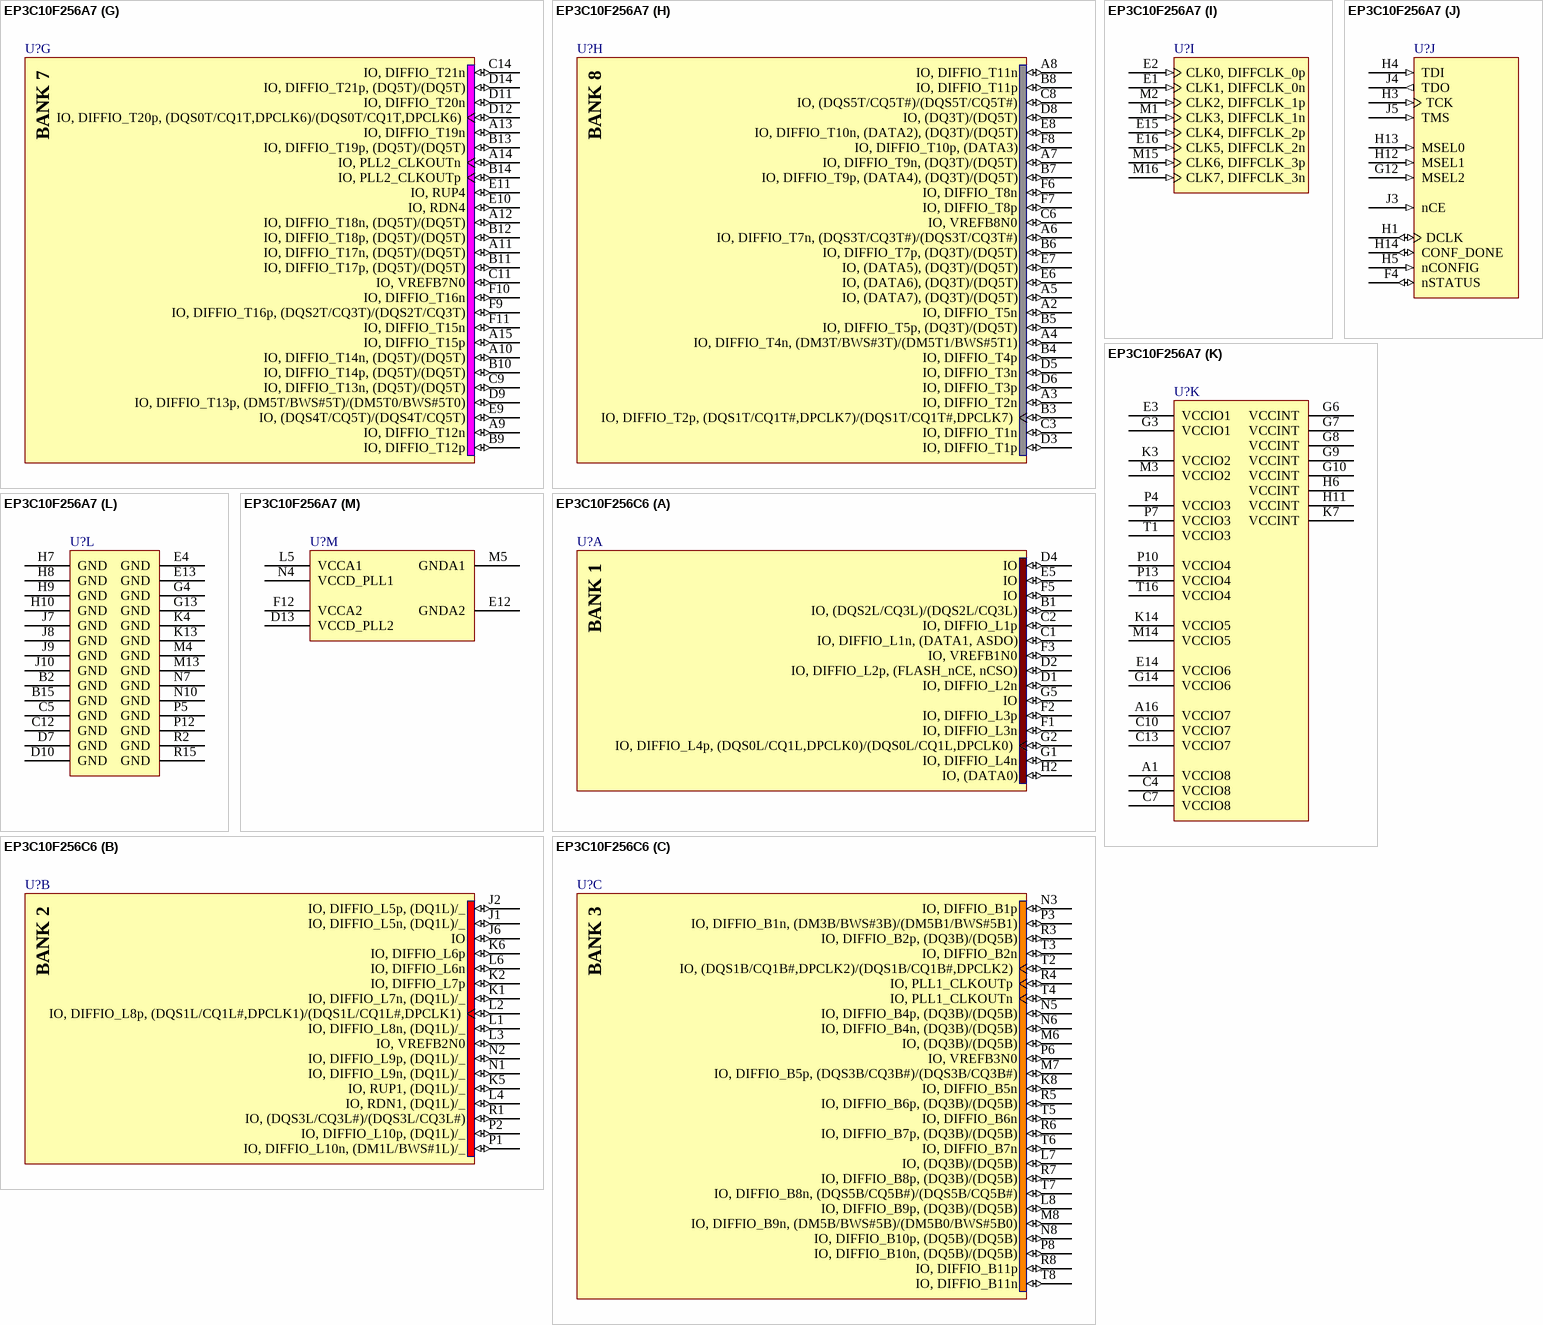
[diagram p34: symbols EP3C10F256A7 to EP3C10F256C6]